# Altium schematic symbol library MCU_Microchip_ATtiny.SchLib: 223 symbols (part 3 of 4)
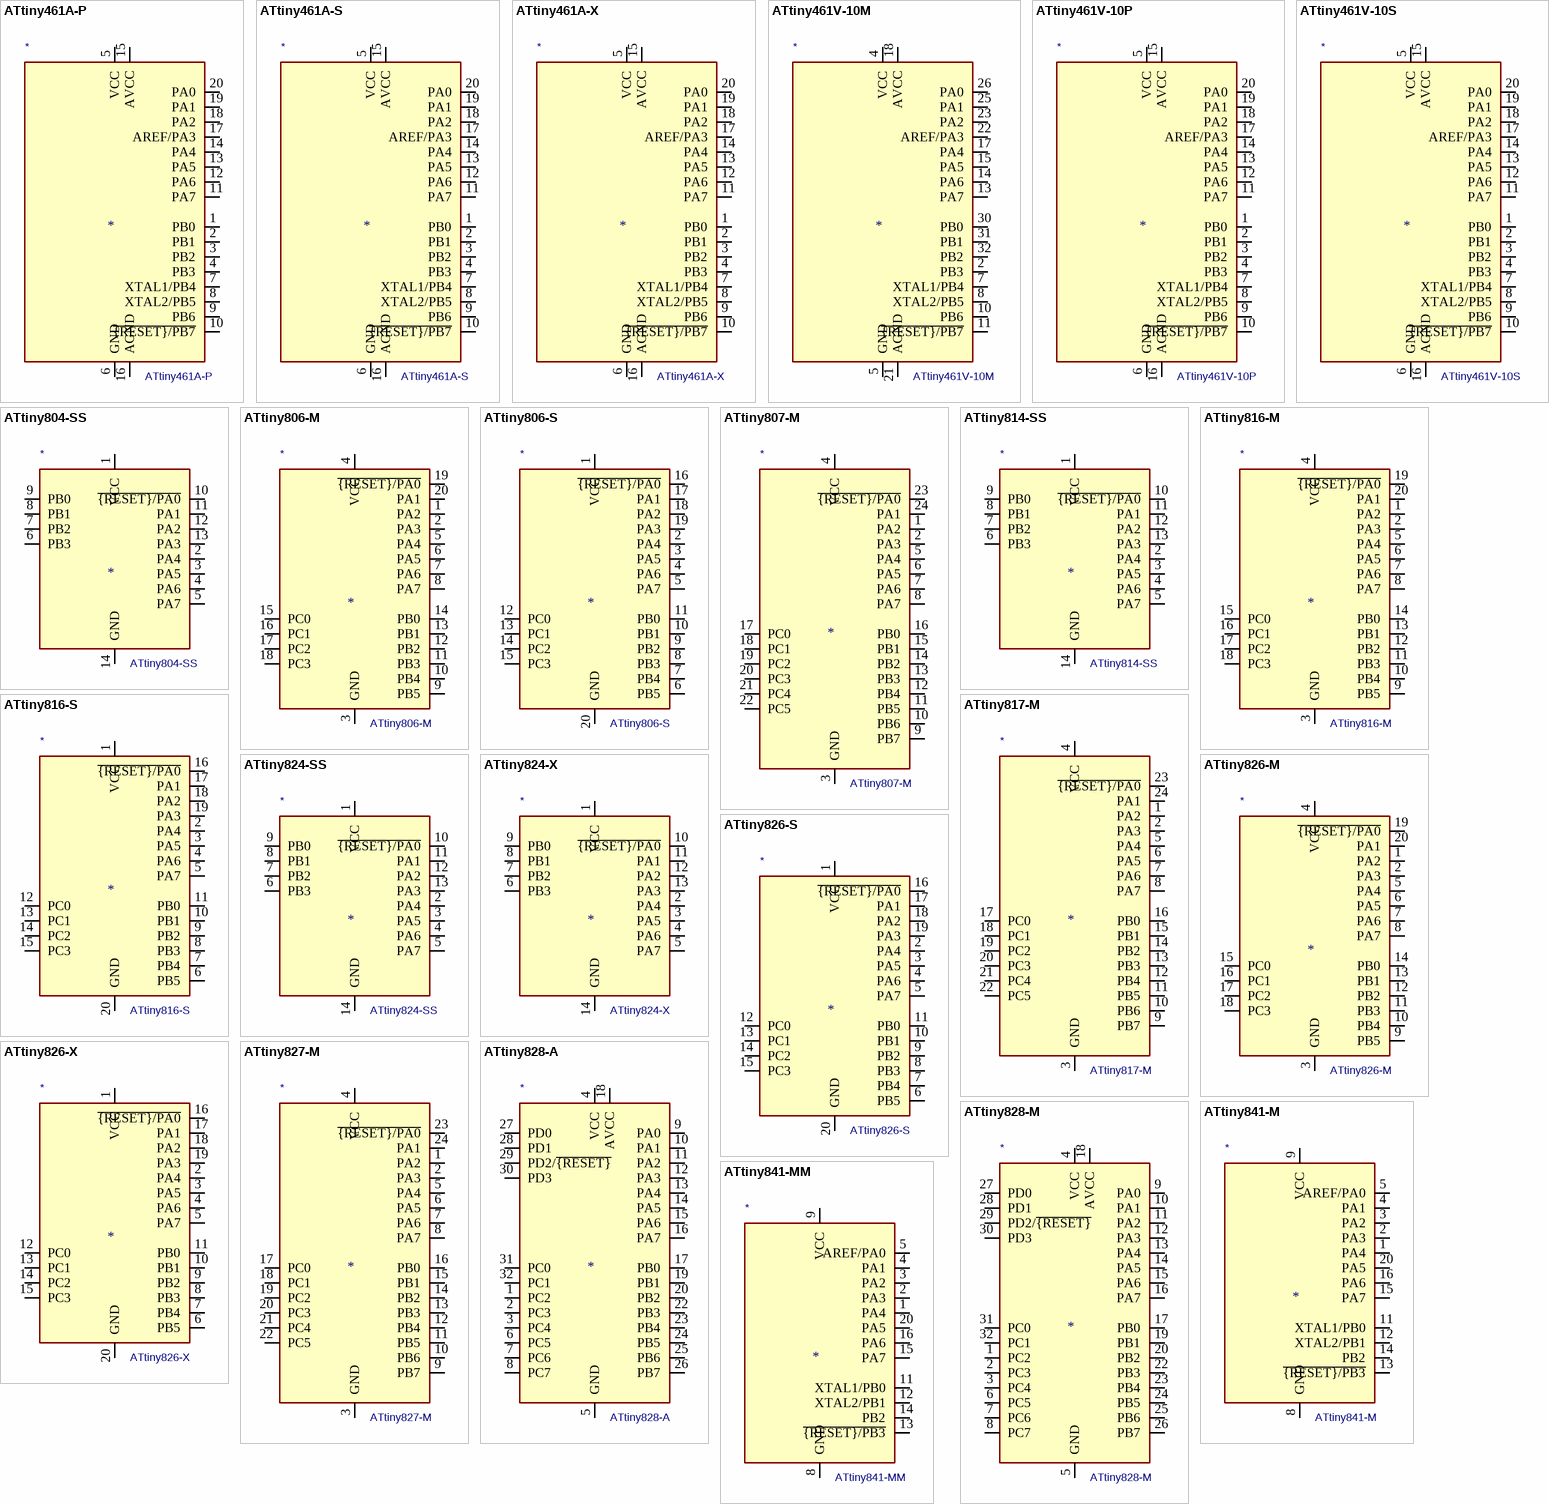
[diagram p11: symbols ATtiny461A-P to ATtiny841-MM]

## ATtiny461A-S
designator *  value ATtiny461A-S
ki_keywords: AVR 8bit Microcontroller tinyAVR; ki_description: 20MHz, 4kB Flash, 256B SRAM, 256B EEPROM, SOIC-20; ki_fp_filters: SOIC*7.5x12.8mm*P1.27mm*; Footprint: Package_SO:SOIC-20W_7.5x12.8mm_P1.27mm; Supplier: http://ww1.microchip.com/downloads/en/DeviceDoc/doc8197.pdf
footprint SOIC-20W_7.5x12.8mm_P1.27mm
pins: 1 PB0 (io), 2 PB1 (io), 3 PB2 (io), 4 PB3 (io), 5 VCC (power), 6 GND (power), 7 XTAL1/PB4 (io), 8 XTAL2/PB5 (io), 9 PB6 (io), 10 ~{{RESET}/PB7} (io), 11 PA7 (io), 12 PA6 (io), 13 PA5 (io), 14 PA4 (io), 15 AVCC (power), 16 AGND (power), 17 AREF/PA3 (io), 18 PA2 (io), 19 PA1 (io), 20 PA0 (io)

## ATtiny461A-X
designator *  value ATtiny461A-X
ki_keywords: AVR 8bit Microcontroller tinyAVR; ki_description: 20MHz, 4kB Flash, 256B SRAM, 256B EEPROM, TSSOP-20; ki_fp_filters: TSSOP*4.4x6.5mm*P0.65mm*; Footprint: Package_SO:TSSOP-20_4.4x6.5mm_P0.65mm; Supplier: http://ww1.microchip.com/downloads/en/DeviceDoc/doc8197.pdf
footprint TSSOP-20_4.4x6.5mm_P0.65mm
pins: 1 PB0 (io), 2 PB1 (io), 3 PB2 (io), 4 PB3 (io), 5 VCC (power), 6 GND (power), 7 XTAL1/PB4 (io), 8 XTAL2/PB5 (io), 9 PB6 (io), 10 ~{{RESET}/PB7} (io), 11 PA7 (io), 12 PA6 (io), 13 PA5 (io), 14 PA4 (io), 15 AVCC (power), 16 AGND (power), 17 AREF/PA3 (io), 18 PA2 (io), 19 PA1 (io), 20 PA0 (io)

## ATtiny461V-10M
designator *  value ATtiny461V-10M
ki_keywords: AVR 8bit Microcontroller tinyAVR; ki_description: 10MHz, 4kB Flash, 256B SRAM, 256B EEPROM, QFN-32; ki_fp_filters: QFN*1EP*5x5mm*P0.5mm*; Footprint: Package_DFN_QFN:QFN-32-1EP_5x5mm_P0.5mm_EP3.1x3.1mm; Supplier: http://ww1.microchip.com/downloads/en/DeviceDoc/atmel-2588-8-bit-avr-microcontrollers-tinyavr-attiny261-attiny461-attiny861_datasheet.pdf
footprint QFN-32-1EP_5x5mm_P0.5mm_EP3.1x3.1mm
pins: 1 NC (in) hidden, 2 PB3 (io), 3 NC (in) hidden, 4 VCC (power), 5 GND (power), 6 NC (in) hidden, 7 XTAL1/PB4 (io), 8 XTAL2/PB5 (io), 9 NC (in) hidden, 10 PB6 (io), 11 ~{{RESET}/PB7} (io), 12 NC (in) hidden, 13 PA7 (io), 14 PA6 (io), 15 PA5 (io), 16 NC (in) hidden, 17 PA4 (io), 18 AVCC (power), 19 NC (in) hidden, 20 NC (in) hidden, 21 AGND (power), 22 AREF/PA3 (io), 23 PA2 (io), 24 NC (in) hidden, 25 PA1 (io), 26 PA0 (io), 27 NC (in) hidden, 28 NC (in) hidden, 29 NC (in) hidden, 30 PB0 (io), 31 PB1 (io), 32 PB2 (io), 33 GND hidden

## ATtiny461V-10P
designator *  value ATtiny461V-10P
ki_keywords: AVR 8bit Microcontroller tinyAVR; ki_description: 10MHz, 4kB Flash, 256B SRAM, 256B EEPROM, DIP-20; ki_fp_filters: DIP*W7.62mm*; Footprint: Package_DIP:DIP-20_W7.62mm; Supplier: http://ww1.microchip.com/downloads/en/DeviceDoc/atmel-2588-8-bit-avr-microcontrollers-tinyavr-attiny261-attiny461-attiny861_datasheet.pdf
footprint DIP-20_W7.62mm
pins: 1 PB0 (io), 2 PB1 (io), 3 PB2 (io), 4 PB3 (io), 5 VCC (power), 6 GND (power), 7 XTAL1/PB4 (io), 8 XTAL2/PB5 (io), 9 PB6 (io), 10 ~{{RESET}/PB7} (io), 11 PA7 (io), 12 PA6 (io), 13 PA5 (io), 14 PA4 (io), 15 AVCC (power), 16 AGND (power), 17 AREF/PA3 (io), 18 PA2 (io), 19 PA1 (io), 20 PA0 (io)

## ATtiny461V-10S
designator *  value ATtiny461V-10S
ki_keywords: AVR 8bit Microcontroller tinyAVR; ki_description: 10MHz, 4kB Flash, 256B SRAM, 256B EEPROM, SOIC-20; ki_fp_filters: SOIC*7.5x12.8mm*P1.27mm*; Footprint: Package_SO:SOIC-20W_7.5x12.8mm_P1.27mm; Supplier: http://ww1.microchip.com/downloads/en/DeviceDoc/atmel-2588-8-bit-avr-microcontrollers-tinyavr-attiny261-attiny461-attiny861_datasheet.pdf
footprint SOIC-20W_7.5x12.8mm_P1.27mm
pins: 1 PB0 (io), 2 PB1 (io), 3 PB2 (io), 4 PB3 (io), 5 VCC (power), 6 GND (power), 7 XTAL1/PB4 (io), 8 XTAL2/PB5 (io), 9 PB6 (io), 10 ~{{RESET}/PB7} (io), 11 PA7 (io), 12 PA6 (io), 13 PA5 (io), 14 PA4 (io), 15 AVCC (power), 16 AGND (power), 17 AREF/PA3 (io), 18 PA2 (io), 19 PA1 (io), 20 PA0 (io)

## ATtiny804-SS
designator *  value ATtiny804-SS
ki_keywords: AVR 8bit Microcontroller tinyAVR; ki_description: 20MHz, 8kB Flash, 512B SRAM, 128B EEPROM, SOIC-14; ki_fp_filters: SOIC*3.9x8.7mm*P1.27mm*; Footprint: Package_SO:SOIC-14_3.9x8.7mm_P1.27mm; Supplier: http://ww1.microchip.com/downloads/en/DeviceDoc/ATtiny804_1604-Data-Sheet-40002028A.pdf
footprint SOIC-14_3.9x8.7mm_P1.27mm
pins: 1 VCC (power), 2 PA4 (io), 3 PA5 (io), 4 PA6 (io), 5 PA7 (io), 6 PB3 (io), 7 PB2 (io), 8 PB1 (io), 9 PB0 (io), 10 ~{{RESET}/PA0} (io), 11 PA1 (io), 12 PA2 (io), 13 PA3 (io), 14 GND (power)

## ATtiny806-M
designator *  value ATtiny806-M
ki_keywords: AVR 8bit Microcontroller tinyAVR; ki_description: 20MHz, 8kB Flash, 512B SRAM, 128B EEPROM, VQFN-20; ki_fp_filters: VQFN*1EP*3x3mm*P0.4mm*; Footprint: Package_DFN_QFN:VQFN-20-1EP_3x3mm_P0.4mm_EP1.7x1.7mm; Supplier: http://ww1.microchip.com/downloads/en/DeviceDoc/ATtiny806_1606_Data_Sheet_40002029A.pdf
footprint VQFN-20-1EP_3x3mm_P0.4mm_EP1.7x1.7mm
pins: 1 PA2 (io), 2 PA3 (io), 3 GND (power), 4 VCC (power), 5 PA4 (io), 6 PA5 (io), 7 PA6 (io), 8 PA7 (io), 9 PB5 (io), 10 PB4 (io), 11 PB3 (io), 12 PB2 (io), 13 PB1 (io), 14 PB0 (io), 15 PC0 (io), 16 PC1 (io), 17 PC2 (io), 18 PC3 (io), 19 ~{{RESET}/PA0} (io), 20 PA1 (io), 21 GND hidden

## ATtiny806-S
designator *  value ATtiny806-S
ki_keywords: AVR 8bit Microcontroller tinyAVR; ki_description: 20MHz, 8kB Flash, 512B SRAM, 128B EEPROM, SOIC-20; ki_fp_filters: SOIC*7.5x12.8mm*P1.27mm*; Footprint: Package_SO:SOIC-20W_7.5x12.8mm_P1.27mm; Supplier: http://ww1.microchip.com/downloads/en/DeviceDoc/ATtiny806_1606_Data_Sheet_40002029A.pdf
footprint SOIC-20W_7.5x12.8mm_P1.27mm
pins: 1 VCC (power), 2 PA4 (io), 3 PA5 (io), 4 PA6 (io), 5 PA7 (io), 6 PB5 (io), 7 PB4 (io), 8 PB3 (io), 9 PB2 (io), 10 PB1 (io), 11 PB0 (io), 12 PC0 (io), 13 PC1 (io), 14 PC2 (io), 15 PC3 (io), 16 ~{{RESET}/PA0} (io), 17 PA1 (io), 18 PA2 (io), 19 PA3 (io), 20 GND (power)

## ATtiny807-M
designator *  value ATtiny807-M
ki_keywords: AVR 8bit Microcontroller tinyAVR; ki_description: 20MHz, 8kB Flash, 512B SRAM, 128B EEPROM, VQFN-24; ki_fp_filters: QFN*1EP*4x4mm*P0.5mm*; Footprint: Package_DFN_QFN:QFN-24-1EP_4x4mm_P0.5mm_EP2.6x2.6mm; Supplier: http://ww1.microchip.com/downloads/en/DeviceDoc/ATtiny807_1607-Data-Sheet-40002030A.pdf
footprint QFN-24-1EP_4x4mm_P0.5mm_EP2.6x2.6mm
pins: 1 PA2 (io), 2 PA3 (io), 3 GND (power), 4 VCC (power), 5 PA4 (io), 6 PA5 (io), 7 PA6 (io), 8 PA7 (io), 9 PB7 (io), 10 PB6 (io), 11 PB5 (io), 12 PB4 (io), 13 PB3 (io), 14 PB2 (io), 15 PB1 (io), 16 PB0 (io), 17 PC0 (io), 18 PC1 (io), 19 PC2 (io), 20 PC3 (io), 21 PC4 (io), 22 PC5 (io), 23 ~{{RESET}/PA0} (io), 24 PA1 (io), 25 GND hidden

## ATtiny814-SS
designator *  value ATtiny814-SS
ki_keywords: AVR 8bit Microcontroller tinyAVR; ki_description: 20MHz, 8kB Flash, 512B SRAM, 128B EEPROM, SOIC-14; ki_fp_filters: SOIC*3.9x8.7mm*P1.27mm*; Footprint: Package_SO:SOIC-14_3.9x8.7mm_P1.27mm; Supplier: http://ww1.microchip.com/downloads/en/DeviceDoc/40001912A.pdf
footprint SOIC-14_3.9x8.7mm_P1.27mm
pins: 1 VCC (power), 2 PA4 (io), 3 PA5 (io), 4 PA6 (io), 5 PA7 (io), 6 PB3 (io), 7 PB2 (io), 8 PB1 (io), 9 PB0 (io), 10 ~{{RESET}/PA0} (io), 11 PA1 (io), 12 PA2 (io), 13 PA3 (io), 14 GND (power)

## ATtiny816-M
designator *  value ATtiny816-M
ki_keywords: AVR 8bit Microcontroller tinyAVR; ki_description: 20MHz, 8kB Flash, 512B SRAM, 128B EEPROM, VQFN-20; ki_fp_filters: VQFN*1EP*3x3mm*P0.4mm*; Footprint: Package_DFN_QFN:VQFN-20-1EP_3x3mm_P0.4mm_EP1.7x1.7mm; Supplier: http://ww1.microchip.com/downloads/en/DeviceDoc/40001913A.pdf
footprint VQFN-20-1EP_3x3mm_P0.4mm_EP1.7x1.7mm
pins: 1 PA2 (io), 2 PA3 (io), 3 GND (power), 4 VCC (power), 5 PA4 (io), 6 PA5 (io), 7 PA6 (io), 8 PA7 (io), 9 PB5 (io), 10 PB4 (io), 11 PB3 (io), 12 PB2 (io), 13 PB1 (io), 14 PB0 (io), 15 PC0 (io), 16 PC1 (io), 17 PC2 (io), 18 PC3 (io), 19 ~{{RESET}/PA0} (io), 20 PA1 (io), 21 GND hidden

## ATtiny816-S
designator *  value ATtiny816-S
ki_keywords: AVR 8bit Microcontroller tinyAVR; ki_description: 20MHz, 8kB Flash, 512B SRAM, 128B EEPROM, SOIC-20; ki_fp_filters: SOIC*7.5x12.8mm*P1.27mm*; Footprint: Package_SO:SOIC-20W_7.5x12.8mm_P1.27mm; Supplier: http://ww1.microchip.com/downloads/en/DeviceDoc/40001913A.pdf
footprint SOIC-20W_7.5x12.8mm_P1.27mm
pins: 1 VCC (power), 2 PA4 (io), 3 PA5 (io), 4 PA6 (io), 5 PA7 (io), 6 PB5 (io), 7 PB4 (io), 8 PB3 (io), 9 PB2 (io), 10 PB1 (io), 11 PB0 (io), 12 PC0 (io), 13 PC1 (io), 14 PC2 (io), 15 PC3 (io), 16 ~{{RESET}/PA0} (io), 17 PA1 (io), 18 PA2 (io), 19 PA3 (io), 20 GND (power)

## ATtiny817-M
designator *  value ATtiny817-M
ki_keywords: AVR 8bit Microcontroller tinyAVR; ki_description: 20MHz, 8kB Flash, 512B SRAM, 128B EEPROM, VQFN-24; ki_fp_filters: QFN*1EP*4x4mm*P0.5mm*; Footprint: Package_DFN_QFN:QFN-24-1EP_4x4mm_P0.5mm_EP2.6x2.6mm; Supplier: http://ww1.microchip.com/downloads/en/DeviceDoc/40001901B.pdf
footprint QFN-24-1EP_4x4mm_P0.5mm_EP2.6x2.6mm
pins: 1 PA2 (io), 2 PA3 (io), 3 GND (power), 4 VCC (power), 5 PA4 (io), 6 PA5 (io), 7 PA6 (io), 8 PA7 (io), 9 PB7 (io), 10 PB6 (io), 11 PB5 (io), 12 PB4 (io), 13 PB3 (io), 14 PB2 (io), 15 PB1 (io), 16 PB0 (io), 17 PC0 (io), 18 PC1 (io), 19 PC2 (io), 20 PC3 (io), 21 PC4 (io), 22 PC5 (io), 23 ~{{RESET}/PA0} (io), 24 PA1 (io), 25 GND hidden

## ATtiny824-SS
designator *  value ATtiny824-SS
ki_keywords: AVR 8bit Microcontroller tinyAVR; ki_description: 20MHz, 8kB Flash, 1kB SRAM, 128B EEPROM, SOIC-14; ki_fp_filters: SOIC*3.9x8.7mm*P1.27mm*; Footprint: Package_SO:SOIC-14_3.9x8.7mm_P1.27mm; Supplier: https://ww1.microchip.com/downloads/en/DeviceDoc/ATtiny424-426-427-824-826-827-DataSheet-DS40002311A.pdf
footprint SOIC-14_3.9x8.7mm_P1.27mm
pins: 1 VCC (power), 2 PA4 (io), 3 PA5 (io), 4 PA6 (io), 5 PA7 (io), 6 PB3 (io), 7 PB2 (io), 8 PB1 (io), 9 PB0 (io), 10 ~{{RESET}/PA0} (io), 11 PA1 (io), 12 PA2 (io), 13 PA3 (io), 14 GND (power)

## ATtiny824-X
designator *  value ATtiny824-X
ki_keywords: AVR 8bit Microcontroller tinyAVR; ki_description: 20MHz, 8kB Flash, 1kB SRAM, 128B EEPROM, TSSOP-14; ki_fp_filters: TSSOP*4.4x5mm*P0.65mm*; Footprint: Package_SO:TSSOP-14_4.4x5mm_P0.65mm; Supplier: https://ww1.microchip.com/downloads/en/DeviceDoc/ATtiny424-426-427-824-826-827-DataSheet-DS40002311A.pdf
footprint TSSOP-14_4.4x5mm_P0.65mm
pins: 1 VCC (power), 2 PA4 (io), 3 PA5 (io), 4 PA6 (io), 5 PA7 (io), 6 PB3 (io), 7 PB2 (io), 8 PB1 (io), 9 PB0 (io), 10 ~{{RESET}/PA0} (io), 11 PA1 (io), 12 PA2 (io), 13 PA3 (io), 14 GND (power)

## ATtiny826-M
designator *  value ATtiny826-M
ki_keywords: AVR 8bit Microcontroller tinyAVR; ki_description: 20MHz, 8kB Flash, 1kB SRAM, 128B EEPROM, VQFN-20; ki_fp_filters: VQFN*1EP*3x3mm*P0.4mm*; Footprint: Package_DFN_QFN:VQFN-20-1EP_3x3mm_P0.4mm_EP1.7x1.7mm; Supplier: https://ww1.microchip.com/downloads/en/DeviceDoc/ATtiny424-426-427-824-826-827-DataSheet-DS40002311A.pdf
footprint VQFN-20-1EP_3x3mm_P0.4mm_EP1.7x1.7mm
pins: 1 PA2 (io), 2 PA3 (io), 3 GND (power), 4 VCC (power), 5 PA4 (io), 6 PA5 (io), 7 PA6 (io), 8 PA7 (io), 9 PB5 (io), 10 PB4 (io), 11 PB3 (io), 12 PB2 (io), 13 PB1 (io), 14 PB0 (io), 15 PC0 (io), 16 PC1 (io), 17 PC2 (io), 18 PC3 (io), 19 ~{{RESET}/PA0} (io), 20 PA1 (io), 21 GND hidden

## ATtiny826-S
designator *  value ATtiny826-S
ki_keywords: AVR 8bit Microcontroller tinyAVR; ki_description: 20MHz, 8kB Flash, 1kB SRAM, 128B EEPROM, SOIC-20; ki_fp_filters: SOIC*7.5x12.8mm*P1.27mm*; Footprint: Package_SO:SOIC-20W_7.5x12.8mm_P1.27mm; Supplier: https://ww1.microchip.com/downloads/en/DeviceDoc/ATtiny424-426-427-824-826-827-DataSheet-DS40002311A.pdf
footprint SOIC-20W_7.5x12.8mm_P1.27mm
pins: 1 VCC (power), 2 PA4 (io), 3 PA5 (io), 4 PA6 (io), 5 PA7 (io), 6 PB5 (io), 7 PB4 (io), 8 PB3 (io), 9 PB2 (io), 10 PB1 (io), 11 PB0 (io), 12 PC0 (io), 13 PC1 (io), 14 PC2 (io), 15 PC3 (io), 16 ~{{RESET}/PA0} (io), 17 PA1 (io), 18 PA2 (io), 19 PA3 (io), 20 GND (power)

## ATtiny826-X
designator *  value ATtiny826-X
ki_keywords: AVR 8bit Microcontroller tinyAVR; ki_description: 20MHz, 8kB Flash, 1kB SRAM, 128B EEPROM, SSOP-20; ki_fp_filters: SSOP*5.3x7.2mm*P0.65mm*; Footprint: Package_SO:SSOP-20_5.3x7.2mm_P0.65mm; Supplier: https://ww1.microchip.com/downloads/en/DeviceDoc/ATtiny424-426-427-824-826-827-DataSheet-DS40002311A.pdf
footprint SSOP-20_5.3x7.2mm_P0.65mm
pins: 1 VCC (power), 2 PA4 (io), 3 PA5 (io), 4 PA6 (io), 5 PA7 (io), 6 PB5 (io), 7 PB4 (io), 8 PB3 (io), 9 PB2 (io), 10 PB1 (io), 11 PB0 (io), 12 PC0 (io), 13 PC1 (io), 14 PC2 (io), 15 PC3 (io), 16 ~{{RESET}/PA0} (io), 17 PA1 (io), 18 PA2 (io), 19 PA3 (io), 20 GND (power)

## ATtiny827-M
designator *  value ATtiny827-M
ki_keywords: AVR 8bit Microcontroller tinyAVR; ki_description: 20MHz, 8kB Flash, 1kB SRAM, 128B EEPROM, VQFN-24; ki_fp_filters: QFN*1EP*4x4mm*P0.5mm*; Footprint: Package_DFN_QFN:QFN-24-1EP_4x4mm_P0.5mm_EP2.6x2.6mm; Supplier: https://ww1.microchip.com/downloads/en/DeviceDoc/ATtiny424-426-427-824-826-827-DataSheet-DS40002311A.pdf
footprint QFN-24-1EP_4x4mm_P0.5mm_EP2.6x2.6mm
pins: 1 PA2 (io), 2 PA3 (io), 3 GND (power), 4 VCC (power), 5 PA4 (io), 6 PA5 (io), 7 PA6 (io), 8 PA7 (io), 9 PB7 (io), 10 PB6 (io), 11 PB5 (io), 12 PB4 (io), 13 PB3 (io), 14 PB2 (io), 15 PB1 (io), 16 PB0 (io), 17 PC0 (io), 18 PC1 (io), 19 PC2 (io), 20 PC3 (io), 21 PC4 (io), 22 PC5 (io), 23 ~{{RESET}/PA0} (io), 24 PA1 (io), 25 GND hidden

## ATtiny828-A
designator *  value ATtiny828-A
ki_keywords: AVR 8bit Microcontroller tinyAVR; ki_description: 20MHz, 8kB Flash, 512B SRAM, 256B EEPROM, debugWIRE, TQFP-32; ki_fp_filters: TQFP*7x7mm*P0.8mm*; Footprint: Package_QFP:TQFP-32_7x7mm_P0.8mm; Supplier: http://ww1.microchip.com/downloads/en/DeviceDoc/doc8371.pdf
footprint TQFP-32_7x7mm_P0.8mm
pins: 1 PC2 (io), 2 PC3 (io), 3 PC4 (io), 4 VCC (power), 5 GND (power), 6 PC5 (io), 7 PC6 (io), 8 PC7 (io), 9 PA0 (io), 10 PA1 (io), 11 PA2 (io), 12 PA3 (io), 13 PA4 (io), 14 PA5 (io), 15 PA6 (io), 16 PA7 (io), 17 PB0 (io), 18 AVCC (power), 19 PB1 (io), 20 PB2 (io), 21 GND hidden, 22 PB3 (io), 23 PB4 (io), 24 PB5 (io), 25 PB6 (io), 26 PB7 (io), 27 PD0 (io), 28 PD1 (io), 29 PD2/~{{RESET}} (io), 30 PD3 (io), 31 PC0 (io), 32 PC1 (io)

## ATtiny828-M
designator *  value ATtiny828-M
ki_keywords: AVR 8bit Microcontroller tinyAVR; ki_description: 20MHz, 8kB Flash, 512B SRAM, 256B EEPROM, debugWIRE, QFN-32; ki_fp_filters: QFN*1EP*5x5mm*P0.5mm*; Footprint: Package_DFN_QFN:QFN-32-1EP_5x5mm_P0.5mm_EP3.1x3.1mm; Supplier: http://ww1.microchip.com/downloads/en/DeviceDoc/doc8371.pdf
footprint QFN-32-1EP_5x5mm_P0.5mm_EP3.1x3.1mm
pins: 1 PC2 (io), 2 PC3 (io), 3 PC4 (io), 4 VCC (power), 5 GND (power), 6 PC5 (io), 7 PC6 (io), 8 PC7 (io), 9 PA0 (io), 10 PA1 (io), 11 PA2 (io), 12 PA3 (io), 13 PA4 (io), 14 PA5 (io), 15 PA6 (io), 16 PA7 (io), 17 PB0 (io), 18 AVCC (power), 19 PB1 (io), 20 PB2 (io), 21 GND hidden, 22 PB3 (io), 23 PB4 (io), 24 PB5 (io), 25 PB6 (io), 26 PB7 (io), 27 PD0 (io), 28 PD1 (io), 29 PD2/~{{RESET}} (io), 30 PD3 (io), 31 PC0 (io), 32 PC1 (io), 33 GND hidden

## ATtiny841-M
designator *  value ATtiny841-M
ki_keywords: AVR 8bit Microcontroller tinyAVR; ki_description: 16MHz, 8kB Flash, 512B SRAM, 512B EEPROM, ADC, ACI, debugWIRE, QFN-20; ki_fp_filters: QFN*1EP*4x4mm*P0.5mm*; Footprint: Package_DFN_QFN:QFN-20-1EP_4x4mm_P0.5mm_EP2.6x2.6mm; Supplier: http://ww1.microchip.com/downloads/en/DeviceDoc/Atmel-8495-8-bit-AVR-Microcontrollers-ATtiny441-ATtiny841_Datasheet.pdf
footprint QFN-20-1EP_4x4mm_P0.5mm_EP2.6x2.6mm
pins: 1 PA4 (io), 2 PA3 (io), 3 PA2 (io), 4 PA1 (io), 5 AREF/PA0 (io), 6 NC (in) hidden, 7 NC (in) hidden, 8 GND (power), 9 VCC (power), 10 NC (in) hidden, 11 XTAL1/PB0 (io), 12 XTAL2/PB1 (io), 13 ~{{RESET}/PB3} (io), 14 PB2 (io), 15 PA7 (io), 16 PA6 (io), 17 NC (in) hidden, 18 NC (in) hidden, 19 NC (in) hidden, 20 PA5 (io), 21 GND hidden

## ATtiny841-MM
designator *  value ATtiny841-MM
ki_keywords: AVR 8bit Microcontroller tinyAVR; ki_description: 16MHz, 8kB Flash, 512B SRAM, 512B EEPROM, ADC, ACI, debugWIRE, QFN-20; ki_fp_filters: QFN*1EP*3x3mm*P0.45mm*; Footprint: Package_DFN_QFN:QFN-20-1EP_3x3mm_P0.45mm_EP1.6x1.6mm; Supplier: http://ww1.microchip.com/downloads/en/DeviceDoc/Atmel-8495-8-bit-AVR-Microcontrollers-ATtiny441-ATtiny841_Datasheet.pdf
footprint QFN-20-1EP_3x3mm_P0.45mm_EP1.6x1.6mm
pins: 1 PA4 (io), 2 PA3 (io), 3 PA2 (io), 4 PA1 (io), 5 AREF/PA0 (io), 6 NC (in) hidden, 7 NC (in) hidden, 8 GND (power), 9 VCC (power), 10 NC (in) hidden, 11 XTAL1/PB0 (io), 12 XTAL2/PB1 (io), 13 ~{{RESET}/PB3} (io), 14 PB2 (io), 15 PA7 (io), 16 PA6 (io), 17 NC (in) hidden, 18 NC (in) hidden, 19 NC (in) hidden, 20 PA5 (io), 21 GND hidden

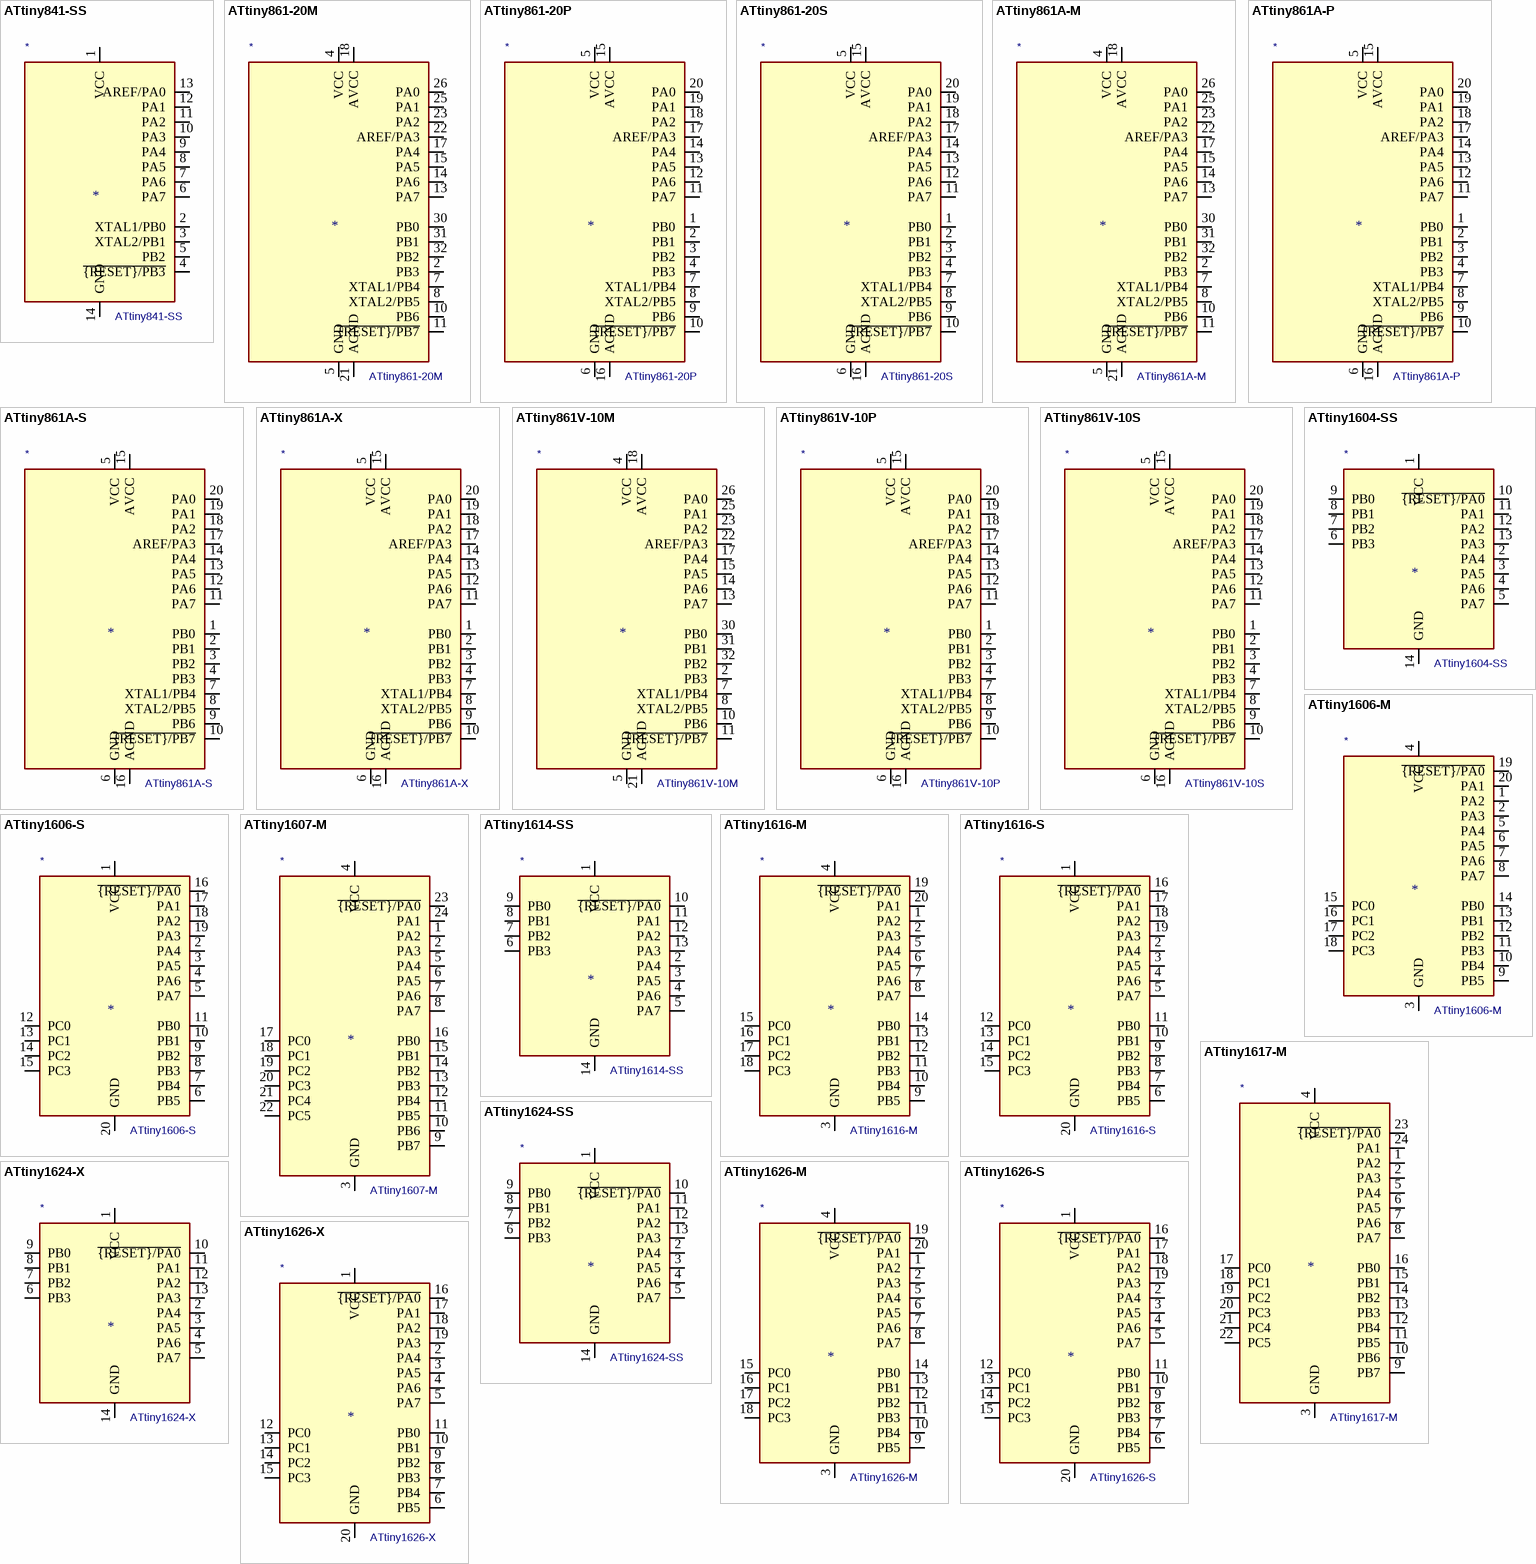
[diagram p7: symbols ATtiny841-SS to ATtiny1626-X]

## ATtiny841-SS
designator *  value ATtiny841-SS
ki_keywords: AVR 8bit Microcontroller tinyAVR; ki_description: 16MHz, 8kB Flash, 512B SRAM, 512B EEPROM, ADC, ACI, debugWIRE, SOIC-14; ki_fp_filters: SOIC*3.9x8.7mm*P1.27mm*; Footprint: Package_SO:SOIC-14_3.9x8.7mm_P1.27mm; Supplier: http://ww1.microchip.com/downloads/en/DeviceDoc/Atmel-8495-8-bit-AVR-Microcontrollers-ATtiny441-ATtiny841_Datasheet.pdf
footprint SOIC-14_3.9x8.7mm_P1.27mm
pins: 1 VCC (power), 2 XTAL1/PB0 (io), 3 XTAL2/PB1 (io), 4 ~{{RESET}/PB3} (io), 5 PB2 (io), 6 PA7 (io), 7 PA6 (io), 8 PA5 (io), 9 PA4 (io), 10 PA3 (io), 11 PA2 (io), 12 PA1 (io), 13 AREF/PA0 (io), 14 GND (power)

## ATtiny861-20M
designator *  value ATtiny861-20M
ki_keywords: AVR 8bit Microcontroller tinyAVR; ki_description: 20MHz, 8kB Flash, 512B SRAM, 512B EEPROM, QFN-32; ki_fp_filters: QFN*1EP*5x5mm*P0.5mm*; Footprint: Package_DFN_QFN:QFN-32-1EP_5x5mm_P0.5mm_EP3.1x3.1mm; Supplier: http://ww1.microchip.com/downloads/en/DeviceDoc/atmel-2588-8-bit-avr-microcontrollers-tinyavr-attiny261-attiny461-attiny861_datasheet.pdf
footprint QFN-32-1EP_5x5mm_P0.5mm_EP3.1x3.1mm
pins: 1 NC (in) hidden, 2 PB3 (io), 3 NC (in) hidden, 4 VCC (power), 5 GND (power), 6 NC (in) hidden, 7 XTAL1/PB4 (io), 8 XTAL2/PB5 (io), 9 NC (in) hidden, 10 PB6 (io), 11 ~{{RESET}/PB7} (io), 12 NC (in) hidden, 13 PA7 (io), 14 PA6 (io), 15 PA5 (io), 16 NC (in) hidden, 17 PA4 (io), 18 AVCC (power), 19 NC (in) hidden, 20 NC (in) hidden, 21 AGND (power), 22 AREF/PA3 (io), 23 PA2 (io), 24 NC (in) hidden, 25 PA1 (io), 26 PA0 (io), 27 NC (in) hidden, 28 NC (in) hidden, 29 NC (in) hidden, 30 PB0 (io), 31 PB1 (io), 32 PB2 (io), 33 GND hidden

## ATtiny861-20P
designator *  value ATtiny861-20P
ki_keywords: AVR 8bit Microcontroller tinyAVR; ki_description: 20MHz, 8kB Flash, 512B SRAM, 512B EEPROM, DIP-20; ki_fp_filters: DIP*W7.62mm*; Footprint: Package_DIP:DIP-20_W7.62mm; Supplier: http://ww1.microchip.com/downloads/en/DeviceDoc/atmel-2588-8-bit-avr-microcontrollers-tinyavr-attiny261-attiny461-attiny861_datasheet.pdf
footprint DIP-20_W7.62mm
pins: 1 PB0 (io), 2 PB1 (io), 3 PB2 (io), 4 PB3 (io), 5 VCC (power), 6 GND (power), 7 XTAL1/PB4 (io), 8 XTAL2/PB5 (io), 9 PB6 (io), 10 ~{{RESET}/PB7} (io), 11 PA7 (io), 12 PA6 (io), 13 PA5 (io), 14 PA4 (io), 15 AVCC (power), 16 AGND (power), 17 AREF/PA3 (io), 18 PA2 (io), 19 PA1 (io), 20 PA0 (io)

## ATtiny861-20S
designator *  value ATtiny861-20S
ki_keywords: AVR 8bit Microcontroller tinyAVR; ki_description: 20MHz, 8kB Flash, 512B SRAM, 512B EEPROM, SOIC-20; ki_fp_filters: SOIC*7.5x12.8mm*P1.27mm*; Footprint: Package_SO:SOIC-20W_7.5x12.8mm_P1.27mm; Supplier: http://ww1.microchip.com/downloads/en/DeviceDoc/atmel-2588-8-bit-avr-microcontrollers-tinyavr-attiny261-attiny461-attiny861_datasheet.pdf
footprint SOIC-20W_7.5x12.8mm_P1.27mm
pins: 1 PB0 (io), 2 PB1 (io), 3 PB2 (io), 4 PB3 (io), 5 VCC (power), 6 GND (power), 7 XTAL1/PB4 (io), 8 XTAL2/PB5 (io), 9 PB6 (io), 10 ~{{RESET}/PB7} (io), 11 PA7 (io), 12 PA6 (io), 13 PA5 (io), 14 PA4 (io), 15 AVCC (power), 16 AGND (power), 17 AREF/PA3 (io), 18 PA2 (io), 19 PA1 (io), 20 PA0 (io)

## ATtiny861A-M
designator *  value ATtiny861A-M
ki_keywords: AVR 8bit Microcontroller tinyAVR; ki_description: 20MHz, 8kB Flash, 512B SRAM, 512B EEPROM, QFN-32; ki_fp_filters: QFN*1EP*5x5mm*P0.5mm*; Footprint: Package_DFN_QFN:QFN-32-1EP_5x5mm_P0.5mm_EP3.1x3.1mm; Supplier: http://ww1.microchip.com/downloads/en/DeviceDoc/doc8197.pdf
footprint QFN-32-1EP_5x5mm_P0.5mm_EP3.1x3.1mm
pins: 1 NC (in) hidden, 2 PB3 (io), 3 NC (in) hidden, 4 VCC (power), 5 GND (power), 6 NC (in) hidden, 7 XTAL1/PB4 (io), 8 XTAL2/PB5 (io), 9 NC (in) hidden, 10 PB6 (io), 11 ~{{RESET}/PB7} (io), 12 NC (in) hidden, 13 PA7 (io), 14 PA6 (io), 15 PA5 (io), 16 NC (in) hidden, 17 PA4 (io), 18 AVCC (power), 19 NC (in) hidden, 20 NC (in) hidden, 21 AGND (power), 22 AREF/PA3 (io), 23 PA2 (io), 24 NC (in) hidden, 25 PA1 (io), 26 PA0 (io), 27 NC (in) hidden, 28 NC (in) hidden, 29 NC (in) hidden, 30 PB0 (io), 31 PB1 (io), 32 PB2 (io), 33 GND hidden

## ATtiny861A-P
designator *  value ATtiny861A-P
ki_keywords: AVR 8bit Microcontroller tinyAVR; ki_description: 20MHz, 8kB Flash, 512B SRAM, 512B EEPROM, DIP-20; ki_fp_filters: DIP*W7.62mm*; Footprint: Package_DIP:DIP-20_W7.62mm; Supplier: http://ww1.microchip.com/downloads/en/DeviceDoc/doc8197.pdf
footprint DIP-20_W7.62mm
pins: 1 PB0 (io), 2 PB1 (io), 3 PB2 (io), 4 PB3 (io), 5 VCC (power), 6 GND (power), 7 XTAL1/PB4 (io), 8 XTAL2/PB5 (io), 9 PB6 (io), 10 ~{{RESET}/PB7} (io), 11 PA7 (io), 12 PA6 (io), 13 PA5 (io), 14 PA4 (io), 15 AVCC (power), 16 AGND (power), 17 AREF/PA3 (io), 18 PA2 (io), 19 PA1 (io), 20 PA0 (io)

## ATtiny861A-S
designator *  value ATtiny861A-S
ki_keywords: AVR 8bit Microcontroller tinyAVR; ki_description: 20MHz, 8kB Flash, 512B SRAM, 512B EEPROM, SOIC-20; ki_fp_filters: SOIC*7.5x12.8mm*P1.27mm*; Footprint: Package_SO:SOIC-20W_7.5x12.8mm_P1.27mm; Supplier: http://ww1.microchip.com/downloads/en/DeviceDoc/doc8197.pdf
footprint SOIC-20W_7.5x12.8mm_P1.27mm
pins: 1 PB0 (io), 2 PB1 (io), 3 PB2 (io), 4 PB3 (io), 5 VCC (power), 6 GND (power), 7 XTAL1/PB4 (io), 8 XTAL2/PB5 (io), 9 PB6 (io), 10 ~{{RESET}/PB7} (io), 11 PA7 (io), 12 PA6 (io), 13 PA5 (io), 14 PA4 (io), 15 AVCC (power), 16 AGND (power), 17 AREF/PA3 (io), 18 PA2 (io), 19 PA1 (io), 20 PA0 (io)

## ATtiny861A-X
designator *  value ATtiny861A-X
ki_keywords: AVR 8bit Microcontroller tinyAVR; ki_description: 20MHz, 8kB Flash, 512B SRAM, 512B EEPROM, TSSOP-20; ki_fp_filters: TSSOP*4.4x6.5mm*P0.65mm*; Footprint: Package_SO:TSSOP-20_4.4x6.5mm_P0.65mm; Supplier: http://ww1.microchip.com/downloads/en/DeviceDoc/doc8197.pdf
footprint TSSOP-20_4.4x6.5mm_P0.65mm
pins: 1 PB0 (io), 2 PB1 (io), 3 PB2 (io), 4 PB3 (io), 5 VCC (power), 6 GND (power), 7 XTAL1/PB4 (io), 8 XTAL2/PB5 (io), 9 PB6 (io), 10 ~{{RESET}/PB7} (io), 11 PA7 (io), 12 PA6 (io), 13 PA5 (io), 14 PA4 (io), 15 AVCC (power), 16 AGND (power), 17 AREF/PA3 (io), 18 PA2 (io), 19 PA1 (io), 20 PA0 (io)

## ATtiny861V-10M
designator *  value ATtiny861V-10M
ki_keywords: AVR 8bit Microcontroller tinyAVR; ki_description: 10MHz, 8kB Flash, 512B SRAM, 512B EEPROM, QFN-32; ki_fp_filters: QFN*1EP*5x5mm*P0.5mm*; Footprint: Package_DFN_QFN:QFN-32-1EP_5x5mm_P0.5mm_EP3.1x3.1mm; Supplier: http://ww1.microchip.com/downloads/en/DeviceDoc/atmel-2588-8-bit-avr-microcontrollers-tinyavr-attiny261-attiny461-attiny861_datasheet.pdf
footprint QFN-32-1EP_5x5mm_P0.5mm_EP3.1x3.1mm
pins: 1 NC (in) hidden, 2 PB3 (io), 3 NC (in) hidden, 4 VCC (power), 5 GND (power), 6 NC (in) hidden, 7 XTAL1/PB4 (io), 8 XTAL2/PB5 (io), 9 NC (in) hidden, 10 PB6 (io), 11 ~{{RESET}/PB7} (io), 12 NC (in) hidden, 13 PA7 (io), 14 PA6 (io), 15 PA5 (io), 16 NC (in) hidden, 17 PA4 (io), 18 AVCC (power), 19 NC (in) hidden, 20 NC (in) hidden, 21 AGND (power), 22 AREF/PA3 (io), 23 PA2 (io), 24 NC (in) hidden, 25 PA1 (io), 26 PA0 (io), 27 NC (in) hidden, 28 NC (in) hidden, 29 NC (in) hidden, 30 PB0 (io), 31 PB1 (io), 32 PB2 (io), 33 GND hidden

## ATtiny861V-10P
designator *  value ATtiny861V-10P
ki_keywords: AVR 8bit Microcontroller tinyAVR; ki_description: 10MHz, 8kB Flash, 512B SRAM, 512B EEPROM, DIP-20; ki_fp_filters: DIP*W7.62mm*; Footprint: Package_DIP:DIP-20_W7.62mm; Supplier: http://ww1.microchip.com/downloads/en/DeviceDoc/atmel-2588-8-bit-avr-microcontrollers-tinyavr-attiny261-attiny461-attiny861_datasheet.pdf
footprint DIP-20_W7.62mm
pins: 1 PB0 (io), 2 PB1 (io), 3 PB2 (io), 4 PB3 (io), 5 VCC (power), 6 GND (power), 7 XTAL1/PB4 (io), 8 XTAL2/PB5 (io), 9 PB6 (io), 10 ~{{RESET}/PB7} (io), 11 PA7 (io), 12 PA6 (io), 13 PA5 (io), 14 PA4 (io), 15 AVCC (power), 16 AGND (power), 17 AREF/PA3 (io), 18 PA2 (io), 19 PA1 (io), 20 PA0 (io)

## ATtiny861V-10S
designator *  value ATtiny861V-10S
ki_keywords: AVR 8bit Microcontroller tinyAVR; ki_description: 10MHz, 8kB Flash, 512B SRAM, 512B EEPROM, SOIC-20; ki_fp_filters: SOIC*7.5x12.8mm*P1.27mm*; Footprint: Package_SO:SOIC-20W_7.5x12.8mm_P1.27mm; Supplier: http://ww1.microchip.com/downloads/en/DeviceDoc/atmel-2588-8-bit-avr-microcontrollers-tinyavr-attiny261-attiny461-attiny861_datasheet.pdf
footprint SOIC-20W_7.5x12.8mm_P1.27mm
pins: 1 PB0 (io), 2 PB1 (io), 3 PB2 (io), 4 PB3 (io), 5 VCC (power), 6 GND (power), 7 XTAL1/PB4 (io), 8 XTAL2/PB5 (io), 9 PB6 (io), 10 ~{{RESET}/PB7} (io), 11 PA7 (io), 12 PA6 (io), 13 PA5 (io), 14 PA4 (io), 15 AVCC (power), 16 AGND (power), 17 AREF/PA3 (io), 18 PA2 (io), 19 PA1 (io), 20 PA0 (io)

## ATtiny1604-SS
designator *  value ATtiny1604-SS
ki_keywords: AVR 8bit Microcontroller tinyAVR; ki_description: 20MHz, 16kB Flash, 1kB SRAM, 256B EEPROM, SOIC-14; ki_fp_filters: SOIC*3.9x8.7mm*P1.27mm*; Footprint: Package_SO:SOIC-14_3.9x8.7mm_P1.27mm; Supplier: http://ww1.microchip.com/downloads/en/DeviceDoc/ATtiny804_1604-Data-Sheet-40002028A.pdf
footprint SOIC-14_3.9x8.7mm_P1.27mm
pins: 1 VCC (power), 2 PA4 (io), 3 PA5 (io), 4 PA6 (io), 5 PA7 (io), 6 PB3 (io), 7 PB2 (io), 8 PB1 (io), 9 PB0 (io), 10 ~{{RESET}/PA0} (io), 11 PA1 (io), 12 PA2 (io), 13 PA3 (io), 14 GND (power)

## ATtiny1606-M
designator *  value ATtiny1606-M
ki_keywords: AVR 8bit Microcontroller tinyAVR; ki_description: 20MHz, 16kB Flash, 1kB SRAM, 256B EEPROM, VQFN-20; ki_fp_filters: VQFN*1EP*3x3mm*P0.4mm*; Footprint: Package_DFN_QFN:VQFN-20-1EP_3x3mm_P0.4mm_EP1.7x1.7mm; Supplier: http://ww1.microchip.com/downloads/en/DeviceDoc/ATtiny806_1606_Data_Sheet_40002029A.pdf
footprint VQFN-20-1EP_3x3mm_P0.4mm_EP1.7x1.7mm
pins: 1 PA2 (io), 2 PA3 (io), 3 GND (power), 4 VCC (power), 5 PA4 (io), 6 PA5 (io), 7 PA6 (io), 8 PA7 (io), 9 PB5 (io), 10 PB4 (io), 11 PB3 (io), 12 PB2 (io), 13 PB1 (io), 14 PB0 (io), 15 PC0 (io), 16 PC1 (io), 17 PC2 (io), 18 PC3 (io), 19 ~{{RESET}/PA0} (io), 20 PA1 (io), 21 GND hidden

## ATtiny1606-S
designator *  value ATtiny1606-S
ki_keywords: AVR 8bit Microcontroller tinyAVR; ki_description: 20MHz, 16kB Flash, 1kB SRAM, 256B EEPROM, SOIC-20; ki_fp_filters: SOIC*7.5x12.8mm*P1.27mm*; Footprint: Package_SO:SOIC-20W_7.5x12.8mm_P1.27mm; Supplier: http://ww1.microchip.com/downloads/en/DeviceDoc/ATtiny806_1606_Data_Sheet_40002029A.pdf
footprint SOIC-20W_7.5x12.8mm_P1.27mm
pins: 1 VCC (power), 2 PA4 (io), 3 PA5 (io), 4 PA6 (io), 5 PA7 (io), 6 PB5 (io), 7 PB4 (io), 8 PB3 (io), 9 PB2 (io), 10 PB1 (io), 11 PB0 (io), 12 PC0 (io), 13 PC1 (io), 14 PC2 (io), 15 PC3 (io), 16 ~{{RESET}/PA0} (io), 17 PA1 (io), 18 PA2 (io), 19 PA3 (io), 20 GND (power)

## ATtiny1607-M
designator *  value ATtiny1607-M
ki_keywords: AVR 8bit Microcontroller tinyAVR; ki_description: 20MHz, 16kB Flash, 1kB SRAM, 256B EEPROM, VQFN-24; ki_fp_filters: QFN*1EP*4x4mm*P0.5mm*; Footprint: Package_DFN_QFN:QFN-24-1EP_4x4mm_P0.5mm_EP2.6x2.6mm; Supplier: http://ww1.microchip.com/downloads/en/DeviceDoc/ATtiny807_1607-Data-Sheet-40002030A.pdf
footprint QFN-24-1EP_4x4mm_P0.5mm_EP2.6x2.6mm
pins: 1 PA2 (io), 2 PA3 (io), 3 GND (power), 4 VCC (power), 5 PA4 (io), 6 PA5 (io), 7 PA6 (io), 8 PA7 (io), 9 PB7 (io), 10 PB6 (io), 11 PB5 (io), 12 PB4 (io), 13 PB3 (io), 14 PB2 (io), 15 PB1 (io), 16 PB0 (io), 17 PC0 (io), 18 PC1 (io), 19 PC2 (io), 20 PC3 (io), 21 PC4 (io), 22 PC5 (io), 23 ~{{RESET}/PA0} (io), 24 PA1 (io), 25 GND hidden

## ATtiny1614-SS
designator *  value ATtiny1614-SS
ki_keywords: AVR 8bit Microcontroller tinyAVR; ki_description: 20MHz, 16kB Flash, 2kB SRAM, 256B EEPROM, SOIC-14; ki_fp_filters: SOIC*3.9x8.7mm*P1.27mm*; Footprint: Package_SO:SOIC-14_3.9x8.7mm_P1.27mm; Supplier: http://ww1.microchip.com/downloads/en/DeviceDoc/ATtiny1614-data-sheet-40001995A.pdf
footprint SOIC-14_3.9x8.7mm_P1.27mm
pins: 1 VCC (power), 2 PA4 (io), 3 PA5 (io), 4 PA6 (io), 5 PA7 (io), 6 PB3 (io), 7 PB2 (io), 8 PB1 (io), 9 PB0 (io), 10 ~{{RESET}/PA0} (io), 11 PA1 (io), 12 PA2 (io), 13 PA3 (io), 14 GND (power)

## ATtiny1616-M
designator *  value ATtiny1616-M
ki_keywords: AVR 8bit Microcontroller tinyAVR; ki_description: 20MHz, 16kB Flash, 2kB SRAM, 256B EEPROM, VQFN-20; ki_fp_filters: VQFN*1EP*3x3mm*P0.4mm*; Footprint: Package_DFN_QFN:VQFN-20-1EP_3x3mm_P0.4mm_EP1.7x1.7mm; Supplier: http://ww1.microchip.com/downloads/en/DeviceDoc/ATtiny3216_ATtiny1616-data-sheet-40001997B.pdf
footprint VQFN-20-1EP_3x3mm_P0.4mm_EP1.7x1.7mm
pins: 1 PA2 (io), 2 PA3 (io), 3 GND (power), 4 VCC (power), 5 PA4 (io), 6 PA5 (io), 7 PA6 (io), 8 PA7 (io), 9 PB5 (io), 10 PB4 (io), 11 PB3 (io), 12 PB2 (io), 13 PB1 (io), 14 PB0 (io), 15 PC0 (io), 16 PC1 (io), 17 PC2 (io), 18 PC3 (io), 19 ~{{RESET}/PA0} (io), 20 PA1 (io), 21 GND hidden

## ATtiny1616-S
designator *  value ATtiny1616-S
ki_keywords: AVR 8bit Microcontroller tinyAVR; ki_description: 20MHz, 16kB Flash, 2kB SRAM, 256B EEPROM, SOIC-20; ki_fp_filters: SOIC*7.5x12.8mm*P1.27mm*; Footprint: Package_SO:SOIC-20W_7.5x12.8mm_P1.27mm; Supplier: http://ww1.microchip.com/downloads/en/DeviceDoc/ATtiny3216_ATtiny1616-data-sheet-40001997B.pdf
footprint SOIC-20W_7.5x12.8mm_P1.27mm
pins: 1 VCC (power), 2 PA4 (io), 3 PA5 (io), 4 PA6 (io), 5 PA7 (io), 6 PB5 (io), 7 PB4 (io), 8 PB3 (io), 9 PB2 (io), 10 PB1 (io), 11 PB0 (io), 12 PC0 (io), 13 PC1 (io), 14 PC2 (io), 15 PC3 (io), 16 ~{{RESET}/PA0} (io), 17 PA1 (io), 18 PA2 (io), 19 PA3 (io), 20 GND (power)

## ATtiny1617-M
designator *  value ATtiny1617-M
ki_keywords: AVR 8bit Microcontroller tinyAVR; ki_description: 20MHz, 16kB Flash, 2kB SRAM, 256B EEPROM, VQFN-24; ki_fp_filters: QFN*1EP*4x4mm*P0.5mm*; Footprint: Package_DFN_QFN:QFN-24-1EP_4x4mm_P0.5mm_EP2.6x2.6mm; Supplier: http://ww1.microchip.com/downloads/en/DeviceDoc/ATtiny3217_1617-Data-Sheet-40001999B.pdf
footprint QFN-24-1EP_4x4mm_P0.5mm_EP2.6x2.6mm
pins: 1 PA2 (io), 2 PA3 (io), 3 GND (power), 4 VCC (power), 5 PA4 (io), 6 PA5 (io), 7 PA6 (io), 8 PA7 (io), 9 PB7 (io), 10 PB6 (io), 11 PB5 (io), 12 PB4 (io), 13 PB3 (io), 14 PB2 (io), 15 PB1 (io), 16 PB0 (io), 17 PC0 (io), 18 PC1 (io), 19 PC2 (io), 20 PC3 (io), 21 PC4 (io), 22 PC5 (io), 23 ~{{RESET}/PA0} (io), 24 PA1 (io), 25 GND hidden

## ATtiny1624-SS
designator *  value ATtiny1624-SS
ki_keywords: AVR 8bit Microcontroller tinyAVR; ki_description: 20MHz, 16kB Flash, 2kB SRAM, 256B EEPROM, SOIC-14; ki_fp_filters: SOIC*3.9x8.7mm*P1.27mm*; Footprint: Package_SO:SOIC-14_3.9x8.7mm_P1.27mm; Supplier: https://ww1.microchip.com/downloads/en/DeviceDoc/ATtiny1624-26-27-DataSheet-DS40002234A.pdf
footprint SOIC-14_3.9x8.7mm_P1.27mm
pins: 1 VCC (power), 2 PA4 (io), 3 PA5 (io), 4 PA6 (io), 5 PA7 (io), 6 PB3 (io), 7 PB2 (io), 8 PB1 (io), 9 PB0 (io), 10 ~{{RESET}/PA0} (io), 11 PA1 (io), 12 PA2 (io), 13 PA3 (io), 14 GND (power)

## ATtiny1624-X
designator *  value ATtiny1624-X
ki_keywords: AVR 8bit Microcontroller tinyAVR; ki_description: 20MHz, 16kB Flash, 2kB SRAM, 256B EEPROM, TSSOP-14; ki_fp_filters: TSSOP*4.4x5mm*P0.65mm*; Footprint: Package_SO:TSSOP-14_4.4x5mm_P0.65mm; Supplier: https://ww1.microchip.com/downloads/en/DeviceDoc/ATtiny1624-26-27-DataSheet-DS40002234A.pdf
footprint TSSOP-14_4.4x5mm_P0.65mm
pins: 1 VCC (power), 2 PA4 (io), 3 PA5 (io), 4 PA6 (io), 5 PA7 (io), 6 PB3 (io), 7 PB2 (io), 8 PB1 (io), 9 PB0 (io), 10 ~{{RESET}/PA0} (io), 11 PA1 (io), 12 PA2 (io), 13 PA3 (io), 14 GND (power)

## ATtiny1626-M
designator *  value ATtiny1626-M
ki_keywords: AVR 8bit Microcontroller tinyAVR; ki_description: 20MHz, 16kB Flash, 2kB SRAM, 256B EEPROM, VQFN-20; ki_fp_filters: VQFN*1EP*3x3mm*P0.4mm*; Footprint: Package_DFN_QFN:VQFN-20-1EP_3x3mm_P0.4mm_EP1.7x1.7mm; Supplier: https://ww1.microchip.com/downloads/en/DeviceDoc/ATtiny1624-26-27-DataSheet-DS40002234A.pdf
footprint VQFN-20-1EP_3x3mm_P0.4mm_EP1.7x1.7mm
pins: 1 PA2 (io), 2 PA3 (io), 3 GND (power), 4 VCC (power), 5 PA4 (io), 6 PA5 (io), 7 PA6 (io), 8 PA7 (io), 9 PB5 (io), 10 PB4 (io), 11 PB3 (io), 12 PB2 (io), 13 PB1 (io), 14 PB0 (io), 15 PC0 (io), 16 PC1 (io), 17 PC2 (io), 18 PC3 (io), 19 ~{{RESET}/PA0} (io), 20 PA1 (io), 21 GND hidden

## ATtiny1626-S
designator *  value ATtiny1626-S
ki_keywords: AVR 8bit Microcontroller tinyAVR; ki_description: 20MHz, 16kB Flash, 2kB SRAM, 256B EEPROM, SOIC-20; ki_fp_filters: SOIC*7.5x12.8mm*P1.27mm*; Footprint: Package_SO:SOIC-20W_7.5x12.8mm_P1.27mm; Supplier: https://ww1.microchip.com/downloads/en/DeviceDoc/ATtiny1624-26-27-DataSheet-DS40002234A.pdf
footprint SOIC-20W_7.5x12.8mm_P1.27mm
pins: 1 VCC (power), 2 PA4 (io), 3 PA5 (io), 4 PA6 (io), 5 PA7 (io), 6 PB5 (io), 7 PB4 (io), 8 PB3 (io), 9 PB2 (io), 10 PB1 (io), 11 PB0 (io), 12 PC0 (io), 13 PC1 (io), 14 PC2 (io), 15 PC3 (io), 16 ~{{RESET}/PA0} (io), 17 PA1 (io), 18 PA2 (io), 19 PA3 (io), 20 GND (power)

## ATtiny1626-X
designator *  value ATtiny1626-X
ki_keywords: AVR 8bit Microcontroller tinyAVR; ki_description: 20MHz, 16kB Flash, 2kB SRAM, 256B EEPROM, SSOP-20; ki_fp_filters: SSOP*5.3x7.2mm*P0.65mm*; Footprint: Package_SO:SSOP-20_5.3x7.2mm_P0.65mm; Supplier: https://ww1.microchip.com/downloads/en/DeviceDoc/ATtiny1624-26-27-DataSheet-DS40002234A.pdf
footprint SSOP-20_5.3x7.2mm_P0.65mm
pins: 1 VCC (power), 2 PA4 (io), 3 PA5 (io), 4 PA6 (io), 5 PA7 (io), 6 PB5 (io), 7 PB4 (io), 8 PB3 (io), 9 PB2 (io), 10 PB1 (io), 11 PB0 (io), 12 PC0 (io), 13 PC1 (io), 14 PC2 (io), 15 PC3 (io), 16 ~{{RESET}/PA0} (io), 17 PA1 (io), 18 PA2 (io), 19 PA3 (io), 20 GND (power)

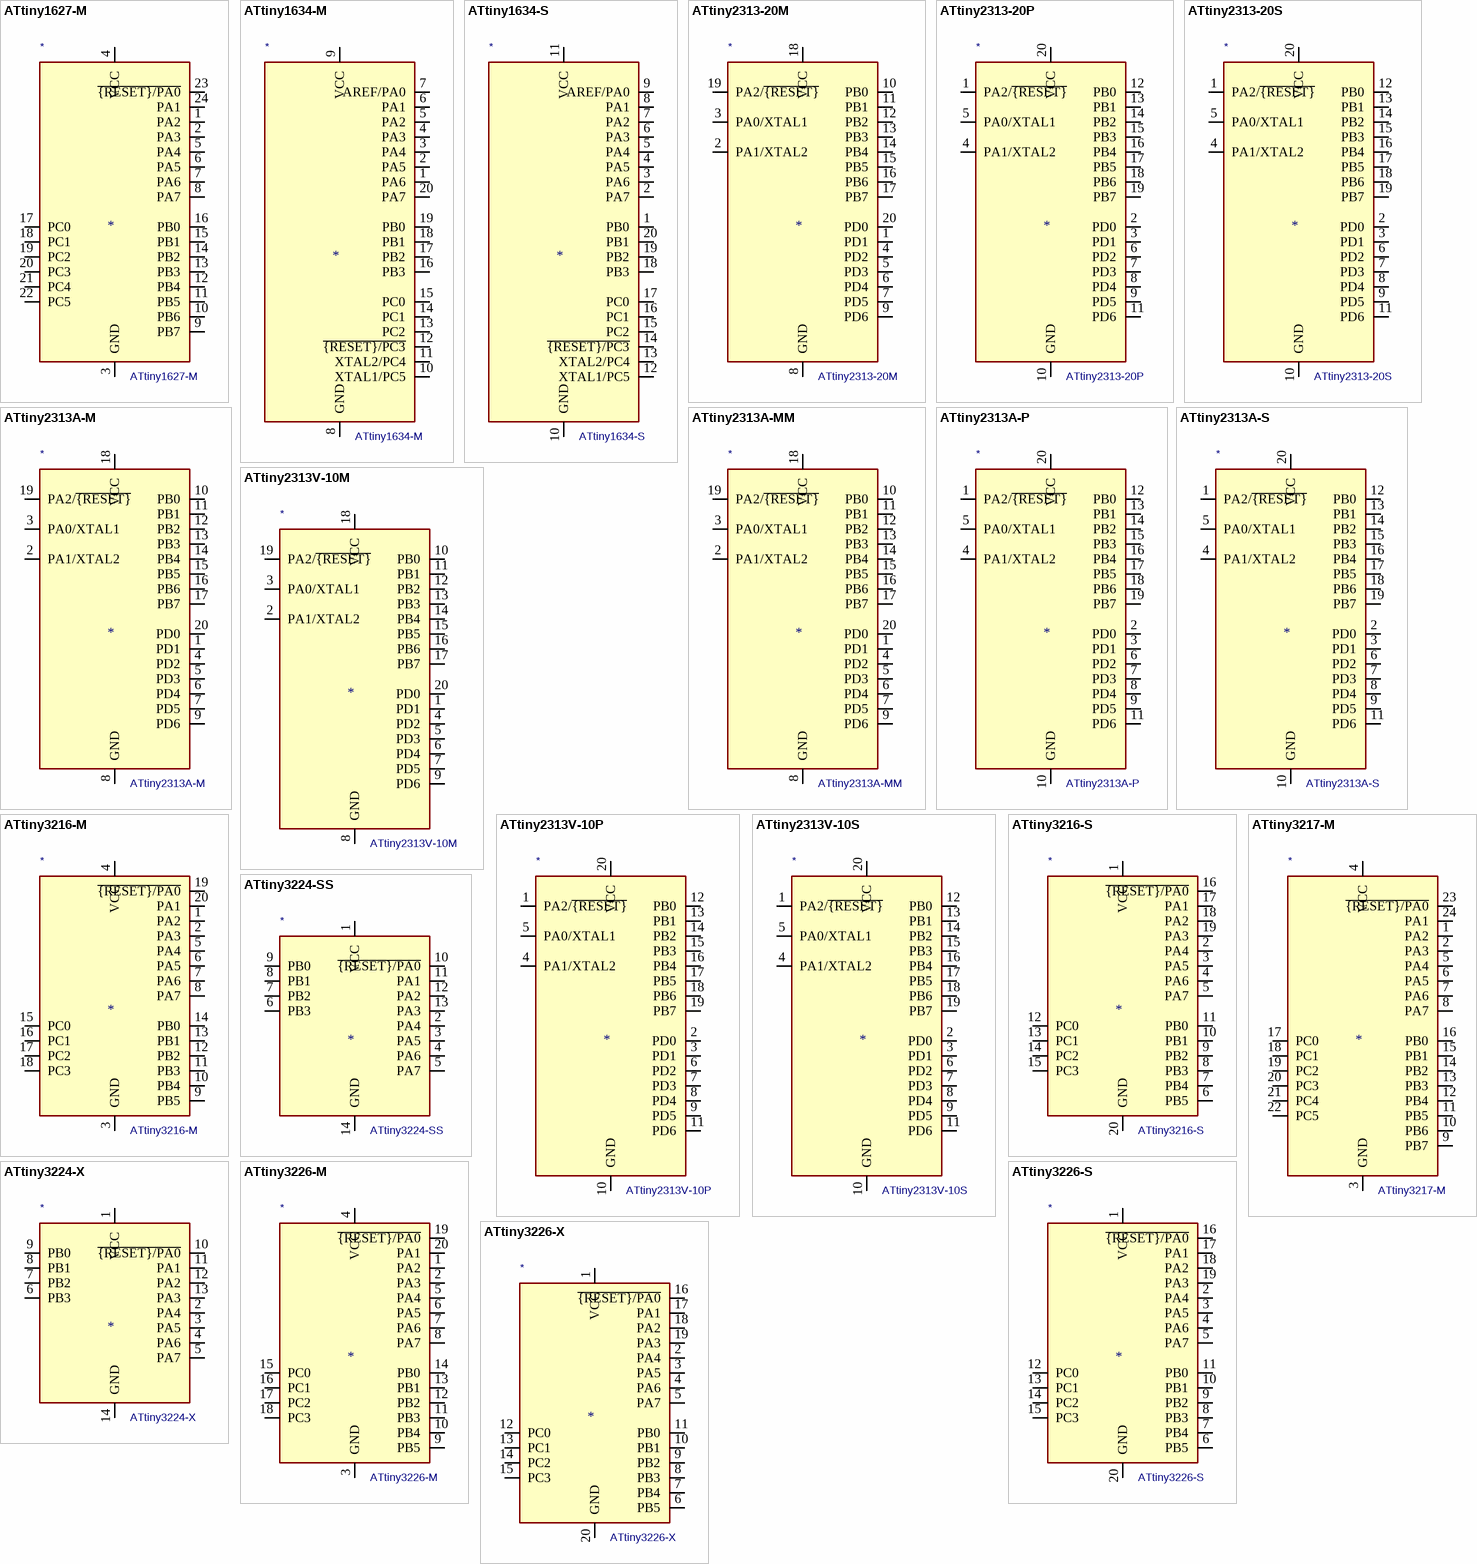
[diagram p8: symbols ATtiny1627-M to ATtiny3226-X]

## ATtiny1627-M
designator *  value ATtiny1627-M
ki_keywords: AVR 8bit Microcontroller tinyAVR; ki_description: 20MHz, 16kB Flash, 2kB SRAM, 256B EEPROM, VQFN-24; ki_fp_filters: QFN*1EP*4x4mm*P0.5mm*; Footprint: Package_DFN_QFN:QFN-24-1EP_4x4mm_P0.5mm_EP2.6x2.6mm; Supplier: https://ww1.microchip.com/downloads/en/DeviceDoc/ATtiny1624-26-27-DataSheet-DS40002234A.pdf
footprint QFN-24-1EP_4x4mm_P0.5mm_EP2.6x2.6mm
pins: 1 PA2 (io), 2 PA3 (io), 3 GND (power), 4 VCC (power), 5 PA4 (io), 6 PA5 (io), 7 PA6 (io), 8 PA7 (io), 9 PB7 (io), 10 PB6 (io), 11 PB5 (io), 12 PB4 (io), 13 PB3 (io), 14 PB2 (io), 15 PB1 (io), 16 PB0 (io), 17 PC0 (io), 18 PC1 (io), 19 PC2 (io), 20 PC3 (io), 21 PC4 (io), 22 PC5 (io), 23 ~{{RESET}/PA0} (io), 24 PA1 (io), 25 GND hidden

## ATtiny1634-M
designator *  value ATtiny1634-M
ki_keywords: AVR 8bit Microcontroller tinyAVR; ki_description: 12MHz, 16kB Flash, 1kB SRAM, 256B EEPROM, ADC, ACI, debugWIRE, QFN-20; ki_fp_filters: QFN*1EP*4x4mm*P0.5mm*; Footprint: Package_DFN_QFN:QFN-20-1EP_4x4mm_P0.5mm_EP2.6x2.6mm; Supplier: http://ww1.microchip.com/downloads/en/DeviceDoc/Atmel-8303-8-bit-AVR-Microcontroller-tinyAVR-ATtiny1634_Datasheet.pdf
footprint QFN-20-1EP_4x4mm_P0.5mm_EP2.6x2.6mm
pins: 1 PA6 (io), 2 PA5 (io), 3 PA4 (io), 4 PA3 (io), 5 PA2 (io), 6 PA1 (io), 7 AREF/PA0 (io), 8 GND (power), 9 VCC (power), 10 XTAL1/PC5 (io), 11 XTAL2/PC4 (io), 12 ~{{RESET}/PC3} (io), 13 PC2 (io), 14 PC1 (io), 15 PC0 (io), 16 PB3 (io), 17 PB2 (io), 18 PB1 (io), 19 PB0 (io), 20 PA7 (io), 21 GND hidden

## ATtiny1634-S
designator *  value ATtiny1634-S
ki_keywords: AVR 8bit Microcontroller tinyAVR; ki_description: 12MHz, 16kB Flash, 1kB SRAM, 256B EEPROM, ADC, ACI, debugWIRE, SOIC-20; ki_fp_filters: SOIC*7.5x12.8mm*P1.27mm*; Footprint: Package_SO:SOIC-20W_7.5x12.8mm_P1.27mm; Supplier: http://ww1.microchip.com/downloads/en/DeviceDoc/Atmel-8303-8-bit-AVR-Microcontroller-tinyAVR-ATtiny1634_Datasheet.pdf
footprint SOIC-20W_7.5x12.8mm_P1.27mm
pins: 1 PB0 (io), 2 PA7 (io), 3 PA6 (io), 4 PA5 (io), 5 PA4 (io), 6 PA3 (io), 7 PA2 (io), 8 PA1 (io), 9 AREF/PA0 (io), 10 GND (power), 11 VCC (power), 12 XTAL1/PC5 (io), 13 XTAL2/PC4 (io), 14 ~{{RESET}/PC3} (io), 15 PC2 (io), 16 PC1 (io), 17 PC0 (io), 18 PB3 (io), 19 PB2 (io), 20 PB1 (io)

## ATtiny2313-20M
designator *  value ATtiny2313-20M
ki_keywords: AVR 8bit Microcontroller tinyAVR; ki_description: 20MHz, 2kB Flash, 128B SRAM, 128B EEPROM, debugWIRE, QFN-20; ki_fp_filters: MLF*1EP*4x4mm*P0.5mm*; Footprint: Package_DFN_QFN:MLF-20-1EP_4x4mm_P0.5mm_EP2.6x2.6mm; Supplier: http://ww1.microchip.com/downloads/en/DeviceDoc/Atmel-2543-AVR-ATtiny2313_Datasheet.pdf
footprint MLF-20-1EP_4x4mm_P0.5mm_EP2.6x2.6mm
pins: 1 PD1 (io), 2 PA1/XTAL2 (io), 3 PA0/XTAL1 (io), 4 PD2 (io), 5 PD3 (io), 6 PD4 (io), 7 PD5 (io), 8 GND (power), 9 PD6 (io), 10 PB0 (io), 11 PB1 (io), 12 PB2 (io), 13 PB3 (io), 14 PB4 (io), 15 PB5 (io), 16 PB6 (io), 17 PB7 (io), 18 VCC (power), 19 PA2/~{{RESET}} (io), 20 PD0 (io), 21 GND hidden

## ATtiny2313-20P
designator *  value ATtiny2313-20P
ki_keywords: AVR 8bit Microcontroller tinyAVR; ki_description: 20MHz, 2kB Flash, 128B SRAM, 128B EEPROM, debugWIRE, DIP-20; ki_fp_filters: DIP*W7.62mm*; Footprint: Package_DIP:DIP-20_W7.62mm; Supplier: http://ww1.microchip.com/downloads/en/DeviceDoc/Atmel-2543-AVR-ATtiny2313_Datasheet.pdf
footprint DIP-20_W7.62mm
pins: 1 PA2/~{{RESET}} (io), 2 PD0 (io), 3 PD1 (io), 4 PA1/XTAL2 (io), 5 PA0/XTAL1 (io), 6 PD2 (io), 7 PD3 (io), 8 PD4 (io), 9 PD5 (io), 10 GND (power), 11 PD6 (io), 12 PB0 (io), 13 PB1 (io), 14 PB2 (io), 15 PB3 (io), 16 PB4 (io), 17 PB5 (io), 18 PB6 (io), 19 PB7 (io), 20 VCC (power)

## ATtiny2313-20S
designator *  value ATtiny2313-20S
ki_keywords: AVR 8bit Microcontroller tinyAVR; ki_description: 20MHz, 2kB Flash, 128B SRAM, 128B EEPROM, debugWIRE, SOIC-20; ki_fp_filters: SOIC*7.5x12.8mm*P1.27mm*; Footprint: Package_SO:SOIC-20W_7.5x12.8mm_P1.27mm; Supplier: http://ww1.microchip.com/downloads/en/DeviceDoc/Atmel-2543-AVR-ATtiny2313_Datasheet.pdf
footprint SOIC-20W_7.5x12.8mm_P1.27mm
pins: 1 PA2/~{{RESET}} (io), 2 PD0 (io), 3 PD1 (io), 4 PA1/XTAL2 (io), 5 PA0/XTAL1 (io), 6 PD2 (io), 7 PD3 (io), 8 PD4 (io), 9 PD5 (io), 10 GND (power), 11 PD6 (io), 12 PB0 (io), 13 PB1 (io), 14 PB2 (io), 15 PB3 (io), 16 PB4 (io), 17 PB5 (io), 18 PB6 (io), 19 PB7 (io), 20 VCC (power)

## ATtiny2313A-M
designator *  value ATtiny2313A-M
ki_keywords: AVR 8bit Microcontroller tinyAVR; ki_description: 20MHz, 2kB Flash, 128B SRAM, 128B EEPROM, QFN-20; ki_fp_filters: MLF*1EP*4x4mm*P0.5mm*; Footprint: Package_DFN_QFN:MLF-20-1EP_4x4mm_P0.5mm_EP2.6x2.6mm; Supplier: http://ww1.microchip.com/downloads/en/DeviceDoc/doc8246.pdf
footprint MLF-20-1EP_4x4mm_P0.5mm_EP2.6x2.6mm
pins: 1 PD1 (io), 2 PA1/XTAL2 (io), 3 PA0/XTAL1 (io), 4 PD2 (io), 5 PD3 (io), 6 PD4 (io), 7 PD5 (io), 8 GND (power), 9 PD6 (io), 10 PB0 (io), 11 PB1 (io), 12 PB2 (io), 13 PB3 (io), 14 PB4 (io), 15 PB5 (io), 16 PB6 (io), 17 PB7 (io), 18 VCC (power), 19 PA2/~{{RESET}} (io), 20 PD0 (io), 21 GND hidden

## ATtiny2313A-MM
designator *  value ATtiny2313A-MM
ki_keywords: AVR 8bit Microcontroller tinyAVR; ki_description: 20MHz, 2kB Flash, 128B SRAM, 128B EEPROM, QFN-20; ki_fp_filters: VQFN*1EP*3x3mm*P0.45mm*; Footprint: Package_DFN_QFN:VQFN-20-1EP_3x3mm_P0.45mm_EP1.55x1.55mm; Supplier: http://ww1.microchip.com/downloads/en/DeviceDoc/doc8246.pdf
footprint VQFN-20-1EP_3x3mm_P0.45mm_EP1.55x1.55mm
pins: 1 PD1 (io), 2 PA1/XTAL2 (io), 3 PA0/XTAL1 (io), 4 PD2 (io), 5 PD3 (io), 6 PD4 (io), 7 PD5 (io), 8 GND (power), 9 PD6 (io), 10 PB0 (io), 11 PB1 (io), 12 PB2 (io), 13 PB3 (io), 14 PB4 (io), 15 PB5 (io), 16 PB6 (io), 17 PB7 (io), 18 VCC (power), 19 PA2/~{{RESET}} (io), 20 PD0 (io), 21 GND hidden

## ATtiny2313A-P
designator *  value ATtiny2313A-P
ki_keywords: AVR 8bit Microcontroller tinyAVR; ki_description: 20MHz, 2kB Flash, 128B SRAM, 128B EEPROM, DIP-20; ki_fp_filters: DIP*W7.62mm*; Footprint: Package_DIP:DIP-20_W7.62mm; Supplier: http://ww1.microchip.com/downloads/en/DeviceDoc/doc8246.pdf
footprint DIP-20_W7.62mm
pins: 1 PA2/~{{RESET}} (io), 2 PD0 (io), 3 PD1 (io), 4 PA1/XTAL2 (io), 5 PA0/XTAL1 (io), 6 PD2 (io), 7 PD3 (io), 8 PD4 (io), 9 PD5 (io), 10 GND (power), 11 PD6 (io), 12 PB0 (io), 13 PB1 (io), 14 PB2 (io), 15 PB3 (io), 16 PB4 (io), 17 PB5 (io), 18 PB6 (io), 19 PB7 (io), 20 VCC (power)

## ATtiny2313A-S
designator *  value ATtiny2313A-S
ki_keywords: AVR 8bit Microcontroller tinyAVR; ki_description: 20MHz, 2kB Flash, 128B SRAM, 128B EEPROM, SOIC-20; ki_fp_filters: SOIC*7.5x12.8mm*P1.27mm*; Footprint: Package_SO:SOIC-20W_7.5x12.8mm_P1.27mm; Supplier: http://ww1.microchip.com/downloads/en/DeviceDoc/doc8246.pdf
footprint SOIC-20W_7.5x12.8mm_P1.27mm
pins: 1 PA2/~{{RESET}} (io), 2 PD0 (io), 3 PD1 (io), 4 PA1/XTAL2 (io), 5 PA0/XTAL1 (io), 6 PD2 (io), 7 PD3 (io), 8 PD4 (io), 9 PD5 (io), 10 GND (power), 11 PD6 (io), 12 PB0 (io), 13 PB1 (io), 14 PB2 (io), 15 PB3 (io), 16 PB4 (io), 17 PB5 (io), 18 PB6 (io), 19 PB7 (io), 20 VCC (power)

## ATtiny2313V-10M
designator *  value ATtiny2313V-10M
ki_keywords: AVR 8bit Microcontroller tinyAVR; ki_description: 10MHz, 2kB Flash, 128B SRAM, 128B EEPROM, debugWIRE, QFN-20; ki_fp_filters: MLF*1EP*4x4mm*P0.5mm*; Footprint: Package_DFN_QFN:MLF-20-1EP_4x4mm_P0.5mm_EP2.6x2.6mm; Supplier: http://ww1.microchip.com/downloads/en/DeviceDoc/Atmel-2543-AVR-ATtiny2313_Datasheet.pdf
footprint MLF-20-1EP_4x4mm_P0.5mm_EP2.6x2.6mm
pins: 1 PD1 (io), 2 PA1/XTAL2 (io), 3 PA0/XTAL1 (io), 4 PD2 (io), 5 PD3 (io), 6 PD4 (io), 7 PD5 (io), 8 GND (power), 9 PD6 (io), 10 PB0 (io), 11 PB1 (io), 12 PB2 (io), 13 PB3 (io), 14 PB4 (io), 15 PB5 (io), 16 PB6 (io), 17 PB7 (io), 18 VCC (power), 19 PA2/~{{RESET}} (io), 20 PD0 (io), 21 GND hidden

## ATtiny2313V-10P
designator *  value ATtiny2313V-10P
ki_keywords: AVR 8bit Microcontroller tinyAVR; ki_description: 10MHz, 2kB Flash, 128B SRAM, 128B EEPROM, debugWIRE, DIP-20; ki_fp_filters: DIP*W7.62mm*; Footprint: Package_DIP:DIP-20_W7.62mm; Supplier: http://ww1.microchip.com/downloads/en/DeviceDoc/Atmel-2543-AVR-ATtiny2313_Datasheet.pdf
footprint DIP-20_W7.62mm
pins: 1 PA2/~{{RESET}} (io), 2 PD0 (io), 3 PD1 (io), 4 PA1/XTAL2 (io), 5 PA0/XTAL1 (io), 6 PD2 (io), 7 PD3 (io), 8 PD4 (io), 9 PD5 (io), 10 GND (power), 11 PD6 (io), 12 PB0 (io), 13 PB1 (io), 14 PB2 (io), 15 PB3 (io), 16 PB4 (io), 17 PB5 (io), 18 PB6 (io), 19 PB7 (io), 20 VCC (power)

## ATtiny2313V-10S
designator *  value ATtiny2313V-10S
ki_keywords: AVR 8bit Microcontroller tinyAVR; ki_description: 10MHz, 2kB Flash, 128B SRAM, 128B EEPROM, debugWIRE, SOIC-20; ki_fp_filters: SOIC*7.5x12.8mm*P1.27mm*; Footprint: Package_SO:SOIC-20W_7.5x12.8mm_P1.27mm; Supplier: http://ww1.microchip.com/downloads/en/DeviceDoc/Atmel-2543-AVR-ATtiny2313_Datasheet.pdf
footprint SOIC-20W_7.5x12.8mm_P1.27mm
pins: 1 PA2/~{{RESET}} (io), 2 PD0 (io), 3 PD1 (io), 4 PA1/XTAL2 (io), 5 PA0/XTAL1 (io), 6 PD2 (io), 7 PD3 (io), 8 PD4 (io), 9 PD5 (io), 10 GND (power), 11 PD6 (io), 12 PB0 (io), 13 PB1 (io), 14 PB2 (io), 15 PB3 (io), 16 PB4 (io), 17 PB5 (io), 18 PB6 (io), 19 PB7 (io), 20 VCC (power)

## ATtiny3216-M
designator *  value ATtiny3216-M
ki_keywords: AVR 8bit Microcontroller tinyAVR; ki_description: 20MHz, 32kB Flash, 2kB SRAM, 256B EEPROM, VQFN-20; ki_fp_filters: VQFN*1EP*3x3mm*P0.4mm*; Footprint: Package_DFN_QFN:VQFN-20-1EP_3x3mm_P0.4mm_EP1.7x1.7mm; Supplier: http://ww1.microchip.com/downloads/en/DeviceDoc/ATtiny3216_ATtiny1616-data-sheet-40001997B.pdf
footprint VQFN-20-1EP_3x3mm_P0.4mm_EP1.7x1.7mm
pins: 1 PA2 (io), 2 PA3 (io), 3 GND (power), 4 VCC (power), 5 PA4 (io), 6 PA5 (io), 7 PA6 (io), 8 PA7 (io), 9 PB5 (io), 10 PB4 (io), 11 PB3 (io), 12 PB2 (io), 13 PB1 (io), 14 PB0 (io), 15 PC0 (io), 16 PC1 (io), 17 PC2 (io), 18 PC3 (io), 19 ~{{RESET}/PA0} (io), 20 PA1 (io), 21 GND hidden

## ATtiny3216-S
designator *  value ATtiny3216-S
ki_keywords: AVR 8bit Microcontroller tinyAVR; ki_description: 20MHz, 32kB Flash, 2kB SRAM, 256B EEPROM, SOIC-20; ki_fp_filters: SOIC*7.5x12.8mm*P1.27mm*; Footprint: Package_SO:SOIC-20W_7.5x12.8mm_P1.27mm; Supplier: http://ww1.microchip.com/downloads/en/DeviceDoc/ATtiny3216_ATtiny1616-data-sheet-40001997B.pdf
footprint SOIC-20W_7.5x12.8mm_P1.27mm
pins: 1 VCC (power), 2 PA4 (io), 3 PA5 (io), 4 PA6 (io), 5 PA7 (io), 6 PB5 (io), 7 PB4 (io), 8 PB3 (io), 9 PB2 (io), 10 PB1 (io), 11 PB0 (io), 12 PC0 (io), 13 PC1 (io), 14 PC2 (io), 15 PC3 (io), 16 ~{{RESET}/PA0} (io), 17 PA1 (io), 18 PA2 (io), 19 PA3 (io), 20 GND (power)

## ATtiny3217-M
designator *  value ATtiny3217-M
ki_keywords: AVR 8bit Microcontroller tinyAVR; ki_description: 20MHz, 32kB Flash, 2kB SRAM, 256B EEPROM, VQFN-24; ki_fp_filters: QFN*1EP*4x4mm*P0.5mm*; Footprint: Package_DFN_QFN:QFN-24-1EP_4x4mm_P0.5mm_EP2.6x2.6mm; Supplier: http://ww1.microchip.com/downloads/en/DeviceDoc/ATtiny3217_1617-Data-Sheet-40001999B.pdf
footprint QFN-24-1EP_4x4mm_P0.5mm_EP2.6x2.6mm
pins: 1 PA2 (io), 2 PA3 (io), 3 GND (power), 4 VCC (power), 5 PA4 (io), 6 PA5 (io), 7 PA6 (io), 8 PA7 (io), 9 PB7 (io), 10 PB6 (io), 11 PB5 (io), 12 PB4 (io), 13 PB3 (io), 14 PB2 (io), 15 PB1 (io), 16 PB0 (io), 17 PC0 (io), 18 PC1 (io), 19 PC2 (io), 20 PC3 (io), 21 PC4 (io), 22 PC5 (io), 23 ~{{RESET}/PA0} (io), 24 PA1 (io), 25 GND hidden

## ATtiny3224-SS
designator *  value ATtiny3224-SS
ki_keywords: AVR 8bit Microcontroller tinyAVR; ki_description: 20MHz, 32kB Flash, 3kB SRAM, 256B EEPROM, SOIC-14; ki_fp_filters: SOIC*3.9x8.7mm*P1.27mm*; Footprint: Package_SO:SOIC-14_3.9x8.7mm_P1.27mm; Supplier: https://ww1.microchip.com/downloads/en/DeviceDoc/ATtiny3224-3226-3227-Data-Sheet-DS40002345A.pdf
footprint SOIC-14_3.9x8.7mm_P1.27mm
pins: 1 VCC (power), 2 PA4 (io), 3 PA5 (io), 4 PA6 (io), 5 PA7 (io), 6 PB3 (io), 7 PB2 (io), 8 PB1 (io), 9 PB0 (io), 10 ~{{RESET}/PA0} (io), 11 PA1 (io), 12 PA2 (io), 13 PA3 (io), 14 GND (power)

## ATtiny3224-X
designator *  value ATtiny3224-X
ki_keywords: AVR 8bit Microcontroller tinyAVR; ki_description: 20MHz, 32kB Flash, 3kB SRAM, 256B EEPROM, TSSOP-14; ki_fp_filters: TSSOP*4.4x5mm*P0.65mm*; Footprint: Package_SO:TSSOP-14_4.4x5mm_P0.65mm; Supplier: https://ww1.microchip.com/downloads/en/DeviceDoc/ATtiny3224-3226-3227-Data-Sheet-DS40002345A.pdf
footprint TSSOP-14_4.4x5mm_P0.65mm
pins: 1 VCC (power), 2 PA4 (io), 3 PA5 (io), 4 PA6 (io), 5 PA7 (io), 6 PB3 (io), 7 PB2 (io), 8 PB1 (io), 9 PB0 (io), 10 ~{{RESET}/PA0} (io), 11 PA1 (io), 12 PA2 (io), 13 PA3 (io), 14 GND (power)

## ATtiny3226-M
designator *  value ATtiny3226-M
ki_keywords: AVR 8bit Microcontroller tinyAVR; ki_description: 20MHz, 32kB Flash, 3kB SRAM, 256B EEPROM, VQFN-20; ki_fp_filters: VQFN*1EP*3x3mm*P0.4mm*; Footprint: Package_DFN_QFN:VQFN-20-1EP_3x3mm_P0.4mm_EP1.7x1.7mm; Supplier: https://ww1.microchip.com/downloads/en/DeviceDoc/ATtiny3224-3226-3227-Data-Sheet-DS40002345A.pdf
footprint VQFN-20-1EP_3x3mm_P0.4mm_EP1.7x1.7mm
pins: 1 PA2 (io), 2 PA3 (io), 3 GND (power), 4 VCC (power), 5 PA4 (io), 6 PA5 (io), 7 PA6 (io), 8 PA7 (io), 9 PB5 (io), 10 PB4 (io), 11 PB3 (io), 12 PB2 (io), 13 PB1 (io), 14 PB0 (io), 15 PC0 (io), 16 PC1 (io), 17 PC2 (io), 18 PC3 (io), 19 ~{{RESET}/PA0} (io), 20 PA1 (io), 21 GND hidden

## ATtiny3226-S
designator *  value ATtiny3226-S
ki_keywords: AVR 8bit Microcontroller tinyAVR; ki_description: 20MHz, 32kB Flash, 3kB SRAM, 256B EEPROM, SOIC-20; ki_fp_filters: SOIC*7.5x12.8mm*P1.27mm*; Footprint: Package_SO:SOIC-20W_7.5x12.8mm_P1.27mm; Supplier: https://ww1.microchip.com/downloads/en/DeviceDoc/ATtiny3224-3226-3227-Data-Sheet-DS40002345A.pdf
footprint SOIC-20W_7.5x12.8mm_P1.27mm
pins: 1 VCC (power), 2 PA4 (io), 3 PA5 (io), 4 PA6 (io), 5 PA7 (io), 6 PB5 (io), 7 PB4 (io), 8 PB3 (io), 9 PB2 (io), 10 PB1 (io), 11 PB0 (io), 12 PC0 (io), 13 PC1 (io), 14 PC2 (io), 15 PC3 (io), 16 ~{{RESET}/PA0} (io), 17 PA1 (io), 18 PA2 (io), 19 PA3 (io), 20 GND (power)

## ATtiny3226-X
designator *  value ATtiny3226-X
ki_keywords: AVR 8bit Microcontroller tinyAVR; ki_description: 20MHz, 32kB Flash, 3kB SRAM, 256B EEPROM, SSOP-20; ki_fp_filters: SSOP*5.3x7.2mm*P0.65mm*; Footprint: Package_SO:SSOP-20_5.3x7.2mm_P0.65mm; Supplier: https://ww1.microchip.com/downloads/en/DeviceDoc/ATtiny3224-3226-3227-Data-Sheet-DS40002345A.pdf
footprint SSOP-20_5.3x7.2mm_P0.65mm
pins: 1 VCC (power), 2 PA4 (io), 3 PA5 (io), 4 PA6 (io), 5 PA7 (io), 6 PB5 (io), 7 PB4 (io), 8 PB3 (io), 9 PB2 (io), 10 PB1 (io), 11 PB0 (io), 12 PC0 (io), 13 PC1 (io), 14 PC2 (io), 15 PC3 (io), 16 ~{{RESET}/PA0} (io), 17 PA1 (io), 18 PA2 (io), 19 PA3 (io), 20 GND (power)

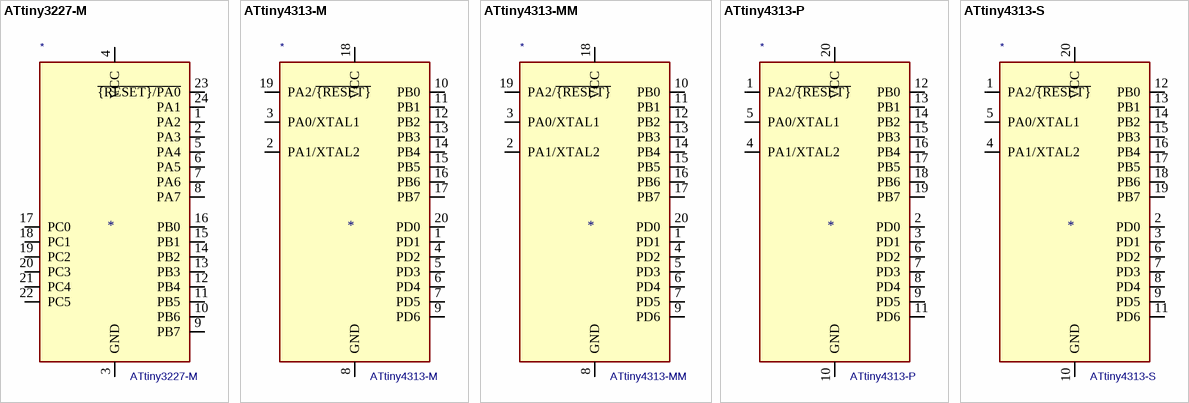
[diagram p9: symbols ATtiny3227-M to ATtiny4313-S]

## ATtiny3227-M
designator *  value ATtiny3227-M
ki_keywords: AVR 8bit Microcontroller tinyAVR; ki_description: 20MHz, 32kB Flash, 3kB SRAM, 256B EEPROM, VQFN-24; ki_fp_filters: QFN*1EP*4x4mm*P0.5mm*; Footprint: Package_DFN_QFN:QFN-24-1EP_4x4mm_P0.5mm_EP2.6x2.6mm; Supplier: https://ww1.microchip.com/downloads/en/DeviceDoc/ATtiny3224-3226-3227-Data-Sheet-DS40002345A.pdf
footprint QFN-24-1EP_4x4mm_P0.5mm_EP2.6x2.6mm
pins: 1 PA2 (io), 2 PA3 (io), 3 GND (power), 4 VCC (power), 5 PA4 (io), 6 PA5 (io), 7 PA6 (io), 8 PA7 (io), 9 PB7 (io), 10 PB6 (io), 11 PB5 (io), 12 PB4 (io), 13 PB3 (io), 14 PB2 (io), 15 PB1 (io), 16 PB0 (io), 17 PC0 (io), 18 PC1 (io), 19 PC2 (io), 20 PC3 (io), 21 PC4 (io), 22 PC5 (io), 23 ~{{RESET}/PA0} (io), 24 PA1 (io), 25 GND hidden

## ATtiny4313-M
designator *  value ATtiny4313-M
ki_keywords: AVR 8bit Microcontroller tinyAVR; ki_description: 20MHz, 4kB Flash, 256B SRAM, 256B EEPROM, QFN-20; ki_fp_filters: MLF*1EP*4x4mm*P0.5mm*; Footprint: Package_DFN_QFN:MLF-20-1EP_4x4mm_P0.5mm_EP2.6x2.6mm; Supplier: http://ww1.microchip.com/downloads/en/DeviceDoc/doc8246.pdf
footprint MLF-20-1EP_4x4mm_P0.5mm_EP2.6x2.6mm
pins: 1 PD1 (io), 2 PA1/XTAL2 (io), 3 PA0/XTAL1 (io), 4 PD2 (io), 5 PD3 (io), 6 PD4 (io), 7 PD5 (io), 8 GND (power), 9 PD6 (io), 10 PB0 (io), 11 PB1 (io), 12 PB2 (io), 13 PB3 (io), 14 PB4 (io), 15 PB5 (io), 16 PB6 (io), 17 PB7 (io), 18 VCC (power), 19 PA2/~{{RESET}} (io), 20 PD0 (io), 21 GND hidden